# Altium integrated library Lattice ORCA Series 4.IntLib: 36 symbols (part 3 of 9)
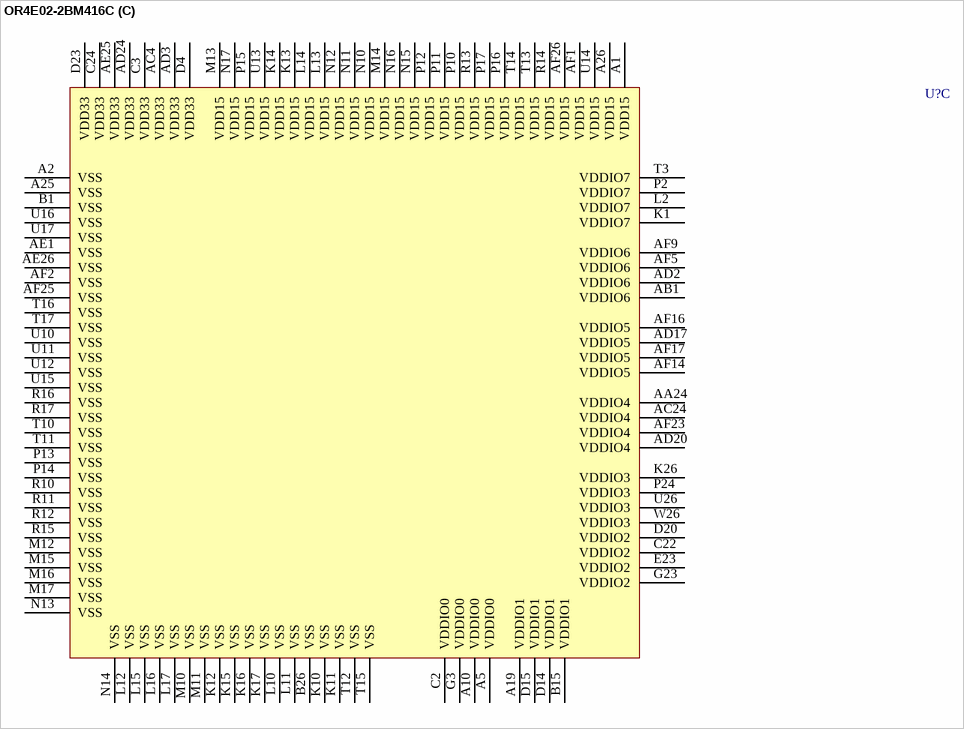
[diagram p120: symbol OR4E02-2BM416C]

## OR4E02-2BM416C
designator U?
ORCA Series 4 FPGA: 1.5 V, Commercial Grade, 405 I/Os.; Published: 21-May-2003; LatestRevisionDate: 13-Apr-2006; LatestRevisionNote: IPC-7351 Footprint Added.; DatasheetVersion: Aug-2003; PackageVersion: pkg_32, Aug-2005; PackageReference: fpBGA416; Publisher: Altium Limited; PackageDescription: 416-Ball Fine Pitch Ball Grid Array (fpBGA416); ComponentLink1Description: Manufacturer Link; ComponentLink1URL: http://www.latticesemi.com/products/fpga/orca/orca4/index.cfm; ComponentLink2Description: Datasheet; ComponentLink2URL: http://www.latticesemi.com/account/_download.cfm?AMID=3970; ComponentLink3Description: Lattice Login; ComponentLink3URL: http://www.latticesemi.com/account/login.cfm
footprint fpBGA416 (BGA, 416-Leads, Body 27x27mm, Pitch 1mm)
3D model OR4E02-fpBGA416 (416-Ball Fine Pitch Ball Grid Array (fpBGA416))
part A pins: AA1 PL22D/D8 (io), AA2 PL22C/VREF_6_01 (io), AA3 PL23C/VREF_6_02 (io), AA4 PL27D/PLL_CK7C/HPPLL (io), AB2 PL24D/D11 (io), AB3 PL25C/D13 (io), AB4 PL27C/PLL_CK7T/HPPLL (io), AC1 PL24C/D12 (io), AC2 PL25D/VREF_6_03 (io), AC5 PB2C/PLL_CK6T/PPLL (io), AC6 PB4A (io), AC7 PB5C/D15 (io), AC8 PB5D/D16 (io), AC9 PB8C/D23 (io), AC10 PB8D/D24 (io), AC11 PB12B/D30 (io), AC12 PB12A/D29 (io), AC13 PB15D (io), AC14 PB15C/VREF_5_02 (io), AC15 PB18A (io), AC16 PB18B (io), AC17 PB21B/VREF_5_06 (io), AC18 PB21A (io), AC19 PB23C (io), AC20 PB23D/VREF_4_02 (io), AC21 PB26C (io), AC22 PB27C/PLL_CK5T/PPLL (io), AC23 PB27D/PLL_CK5C/PPLL (io), AD1 PL26C/VREF_6_04 (io), AD4 PB2D/PLL_CK6C/PPLL (io), AD5 PB4B (io), AD6 PB5B (io), AD7 PB6A/D17 (io), AD8 PB6D/D19 (io), AD9 PB7D/D22 (io), AD10 PB10C/D26 (io), AD11 PB11D/D28 (io), AD12 PB13A (io), AD13 PB14C/PBCK0T (io), AD14 PB16D/VREF_5_03 (io), AD15 PB17C/PBCK1T (io), AD16 PB18C (io), AD18 PB22A (io), AD19 PB22D (io), AD21 PB25A (io), AD22 PB26D (io), AD23 PB27A (io), AE3 PB2A/DP2 (io), AE4 PB3C/VREF_6_05 (io), AE5 PB4D/D14 (io), AE6 PB6B/D18 (io), AE7 PB6C/VREF_6_07 (io), AE8 PB7C/VREF_6_08 (io), AE9 PB9D/D25 (io), AE10 PB10D/D27 (io), AE11 PB11C/VREF_6_10 (io), AE12 PB13B (io), AE13 PB14D/PBCK0C (io), AE14 PB16C (io), AE15 PB17B (io), AE16 PB17D/PBCK1C (io), AE17 PB18D/VREF_5_04 (io), AE18 PB19D/VREF_5_05 (io), AE19 PB22B (io), AE20 PB22C/VREF_4_01 (io), AE21 PB23B (io), AE22 PB24C (io), AE23 PB25C (io), AE24 PB27B/VREF_4_04 (io), AF3 PB3D/DP3 (io), AF4 PB4C/VREF_6_06 (io), AF6 PB7A/D20 (io), AF7 PB7B/D21 (io), AF8 PB9C/VREF_6_09 (io), AF10 PB12C/VREF_6_11 (io), AF11 PB12D/D31 (io), AF12 PB13C/VREF_5_01 (io), AF13 PB13D (io), AF15 PB17A (io), AF18 PB19C (io), AF19 PB20C (io), AF20 PB20D (io), AF21 PB23A (io), AF22 PB24A (io), AF24 PB25D/VREF_4_03 (io), D1 PL2A/VREF_0_07 (io), D2 PL2D/PLL_CK0C/HPPLL (io), E1 PL4D/HDC (io), E2 PL3D/D5 (io), E3 PL2C/PLL_CK0T/HPPLL (io), F1 PL5B/VREF_0_09 (io), F2 PL4C/~{LDC} (io), F3 PL3C/D6 (io), G1 PL6B (io), G2 PL5A/A17/PPC_A31 (io), G4 PL5D/TESTCFG (io), H1 PL6A (io), H2 PL6D/~{CS0} (io), H3 PL6C/CS1 (io), H4 PL5C/D7 (io), J1 PL8D/A15/PPC_A29 (io), J2 PL7A/A16/PPC_A30 (io), J3 PL7B/VREF_0_10 (io), J4 PL7D/~{INIT} (io), K2 PL8C/A14/PPC_A28 (io), K3 PL9D/VREF_7_01 (io), K4 PL7C/DOUT (io), L1 PL10B/A13/PPC_A27 (io), L3 PL9C/D4 (io), L4 PL10D/RDY/~{BUSY}/RCLK (io), M1 PL10A/A12/PPC_A26 (io), M2 PL11C (io), M3 PL11D (io), M4 PL10C/VREF_7_02 (io), N1 PL11B/A11/PPC_A25 (io), N2 PL11A/VREF_7_03 (io), N3 PL13D/~{RD/MPI_STRB} (io), N4 PL13C/VREF_7_04 (io), P1 PL15D/A10/PPC_A24 (io), P3 PL14C/PLCK0T (io), P4 PL14D/PLCK0C (io), R1 PL15C/A9/PPC_A23 (io), R2 PL16D/A8/PPC_A22 (io), R3 PL16C/VREF_7_05 (io), R4 PL17A/A7/PPC_A21 (io), T1 PL17D/PLCK1C (io), T2 PL17C/PLCK1T (io), T4 PL17B/VREF_7_06 (io), U1 PL18D/A6/PPC_A20 (io), U2 PL18C/A5/PPC_A19 (io), U3 PL19C/VREF_7_07 (io), U4 PL20A/A2/PPC_A16 (io), V1 PL18B (io), V2 PL19D/~{WR}/MPI_RW (io), V3 PL21D/A1/PPC_A15 (io), V4 PL20B/A3/PPC_A17 (io), W1 PL20D/A4/PPC_A18 (io), W2 PL21C/A0/PPC_A14 (io), W3 PL21A/DP1 (io), W4 PL22A/D10 (io), Y1 PL20C/VREF_7_08 (io), Y2 PL21B/DP0 (io), Y3 PL22B/D9 (io), Y4 PL23D (io)
part B pins: A3 PT3C/VREF_0_06 (io), A4 PT4D/TDI (io), A6 PT8A (io), A7 PT8B/VREF_0_03 (io), A8 PT9B/VREF_0_02 (io), A9 PT10C/M1 (io), A11 PT12A/VREF_1_06 (io), A12 PT13B/VREF_1_05 (io), A13 PT13C/PTCK0T (io), A14 PT15C/VREF_1_04 (io), A15 PT17C (io), A16 PT17D (io), A17 PT18D (io), A18 PT19D (io), A20 PT22C (io), A21 PT22D (io), A22 PT24D (io), A23 PT25D/VREF_2_06 (io), A24 PT26D/VREF_2_05 (io), AA23 PR25B (io), AA25 PR23C (io), AA26 PR23D/VREF_4_07 (io), AB23 PR25A/VREF_4_05 (io), AB24 PR25D (io), AB25 PR24A (io), AB26 PR24D (io), AC3 PTEMP, AC25 PR25C (io), AC26 PR24C/VREF_4_06 (io), AD25 PR26A/PLL_CK4T/PLL2 (io), AD26 PR26B/PLL_CK4C/PLL2 (io), AE2 LVDS_R (io), B2 CCLK (io), B3 PT3D (io), B4 ~{CFG_IRQ/MPI_IRQ} (out), B5 PT5C/D2 (io), B6 PT7A/A19/MPI_TSZ1 (io), B7 PT7C/TMS (io), B8 PT9A/~{MPI_TEA} (io), B9 PT10B/MPI_CLK (io), B10 PT10D/M0 (io), B11 PT12B (io), B12 PT13A (io), B13 PT13D/PTCK0C (io), B14 PT15D (io), B16 PT18C (io), B17 PT19C/VREF_1_02 (io), B18 PT20B (io), B19 PT21D (io), B20 PT23D (io), B21 PT24C/VREF_2_07 (io), B22 PT25C (io), B23 PT26C (io), B24 PLL_VF, B25 PR3D/PLL_CK3C/PLL1 (io), C1 ~{RESET} (in), C4 DONE (io), C5 PT4C/TCK (io), C6 PT5D/D1 (io), C7 PT7B/A20/~{MPI_BDIP} (io), C8 PT7D/D0 (io), C9 PT10A/A21/~{MPI_BURST} (io), C10 PT11A/VREF_0_01 (io), C11 PT11C/~{MPI_ACK} (io), C12 PT12D (io), C13 PT14C/PTCK1T (io), C14 PT16C (io), C15 PT16D (io), C16 PT18A/VREF_1_03 (io), C17 PT20A (io), C18 PT21C (io), C19 PT23C/VREF_2_08 (io), C20 PT24A (io), C21 PT26A (io), C23 PT27C/PLL_CK2T/PPLL (io), C25 PR4A (io), C26 PR3C/PLL_CK3T/PLL1 (io), D3 RD_DATA/TDO (out), D5 PT2D/PLL_CK1C/PPLL (io), D6 PT2C/PLL_CK1T/PPLL (io), D7 PT6D/A18/MPI_TSZ0 (io), D8 PT6C/D3 (io), D9 PT9C/M3 (io), D10 PT9D/M2 (io), D11 PT11D/~{MPI_RTRY} (io), D12 PT12C (io), D13 PT14D/PTCK1C (io), D16 PT18B (io), D17 PT20C (io), D18 PT20D/VREF_1_01 (io), D19 PT24B (io), D21 PT26B (io), D22 PT27D/PLL_CK2C/PPLL (io), D24 PR4B (io), D25 PR5D/VREF_2_03 (io), D26 PR5C (io), E4 ~{RD_CFG} (in), E24 PR4D (io), E25 PR6D (io), E26 PR7D (io), F4 ~{PRGM} (in), F23 PR4C (io), F24 PR5A (io), F25 PR6C/VREF_2_02 (io), F26 PR7C (io), G24 PR6B (io), G25 PR7A (io), G26 PR10D (io), H23 PR6A (io), H24 PR7B (io), H25 PR8D/VREF_2_01 (io), H26 PR10C (io), J23 PR9D (io), J24 PR8C (io), J25 PR11C/VREF_3_07 (io), J26 PR11B (io), K23 PR9C/VREF_3_08 (io), K24 PR11D (io), K25 PR11A (io), L23 PR12C (io), L24 PR12D (io), L25 PR12B (io), L26 PR12A (io), M23 PR13D/VREF_3_06 (io), M24 PR13C (io), M25 PR13B (io), M26 PR13A (io), N23 PR14A/PRCK0T (io), N24 PR14D (io), N25 PR14C/VREF_3_05 (io), N26 PR15D (io), P23 PR14B/PRCK0C (io), P25 PR15B/VREF_3_04 (io), P26 PR15C (io), R23 PR17A (io), R24 PR16C/PRCK1T (io), R25 PR16D/PRCK1C (io), R26 PR15A (io), T23 PR17B (io), T24 PR18D/VREF_3_02 (io), T25 PR17C (io), T26 PR17D/VREF_3_03 (io), U23 PR20D (io), U24 PR19D (io), U25 PR18C (io), V23 PR20C (io), V24 PR21D (io), V25 PR19C/VREF_3_01 (io), V26 PR18A (io), W23 PR23B (io), W24 PR22B (io), W25 PR21C (io), Y23 PR22A (io), Y24 PR23A (io), Y25 PR22C (io), Y26 PR22D/VREF_4_08 (io)
part C pins: A1 VDD15 (power), A2 VSS (power), A5 VDDIO0 (power), A10 VDDIO0 (power), A19 VDDIO1 (power), A25 VSS (power), A26 VDD15 (power), AA24 VDDIO4 (power), AB1 VDDIO6 (power), AC4 VDD33 (power), AC24 VDDIO4 (power), AD2 VDDIO6 (power), AD3 VDD33 (power), AD17 VDDIO5 (power), AD20 VDDIO4 (power), AD24 VDD33 (power), AE1 VSS (power), AE25 VDD33 (power), AE26 VSS (power), AF1 VDD15 (power), AF2 VSS (power), AF5 VDDIO6 (power), AF9 VDDIO6 (power), AF14 VDDIO5 (power), AF16 VDDIO5 (power), AF17 VDDIO5 (power), AF23 VDDIO4 (power), AF25 VSS (power), AF26 VDD15 (power), B1 VSS (power), B15 VDDIO1 (power), B26 VSS (power), C2 VDDIO0 (power), C3 VDD33 (power), C22 VDDIO2 (power), C24 VDD33 (power), D4 VDD33 (power), D14 VDDIO1 (power), D15 VDDIO1 (power), D20 VDDIO2 (power), D23 VDD33 (power), E23 VDDIO2 (power), G3 VDDIO0 (power), G23 VDDIO2 (power), K1 VDDIO7 (power), K10 VSS (power), K11 VSS (power), K12 VSS (power), K13 VDD15 (power), K14 VDD15 (power), K15 VSS (power), K16 VSS (power), K17 VSS (power), K26 VDDIO3 (power), L2 VDDIO7 (power), L10 VSS (power), L11 VSS (power), L12 VSS (power), L13 VDD15 (power), L14 VDD15 (power), L15 VSS (power), L16 VSS (power), L17 VSS (power), M10 VSS (power), M11 VSS (power), M12 VSS (power), M13 VDD15 (power), M14 VDD15 (power), M15 VSS (power), M16 VSS (power), M17 VSS (power), N10 VDD15 (power), N11 VDD15 (power), N12 VDD15 (power), N13 VSS (power), N14 VSS (power), N15 VDD15 (power), N16 VDD15 (power), N17 VDD15 (power), P2 VDDIO7 (power), P10 VDD15 (power), P11 VDD15 (power), P12 VDD15 (power), P13 VSS (power), P14 VSS (power), P15 VDD15 (power), P16 VDD15 (power), P17 VDD15 (power), P24 VDDIO3 (power), R10 VSS (power), R11 VSS (power), R12 VSS (power), R13 VDD15 (power), R14 VDD15 (power), R15 VSS (power), R16 VSS (power), R17 VSS (power), T3 VDDIO7 (power), T10 VSS (power), T11 VSS (power), T12 VSS (power), T13 VDD15 (power), T14 VDD15 (power), T15 VSS (power), T16 VSS (power), T17 VSS (power), U10 VSS (power), U11 VSS (power), U12 VSS (power), U13 VDD15 (power), U14 VDD15 (power), U15 VSS (power), U16 VSS (power), U17 VSS (power), U26 VDDIO3 (power), W26 VDDIO3 (power)

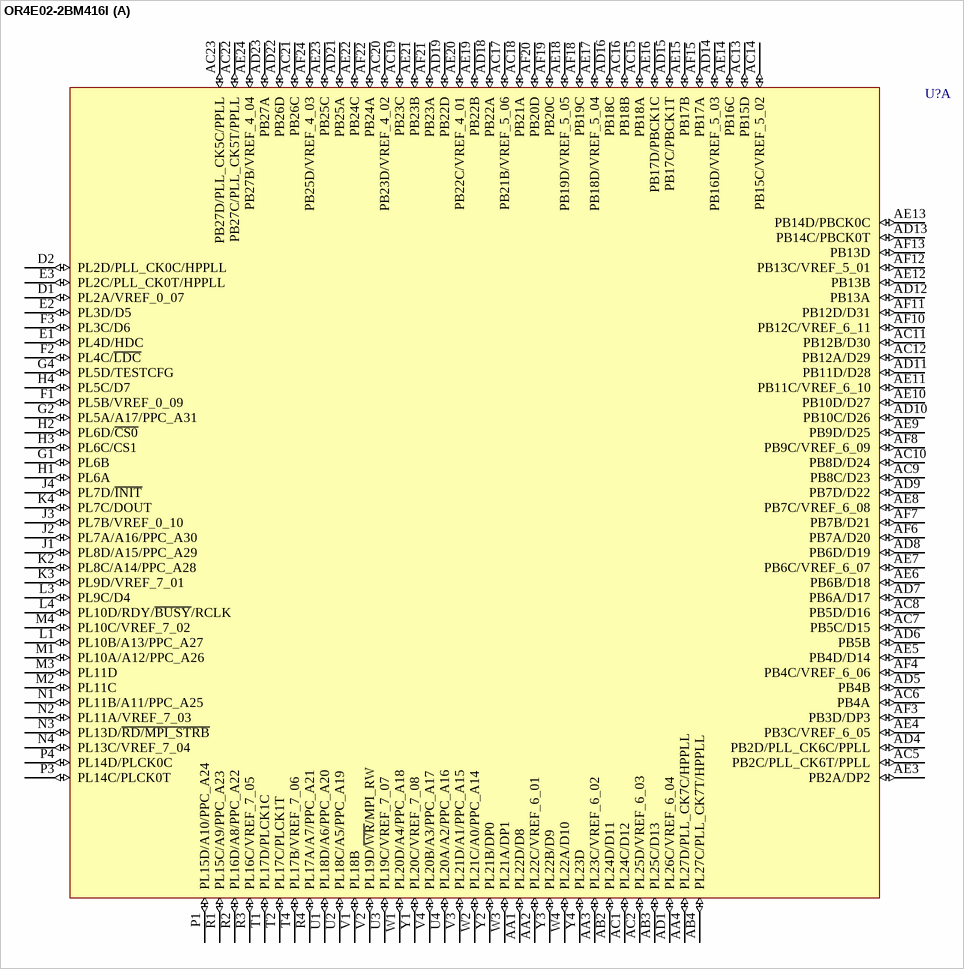
[diagram p27: symbol OR4E02-2BM416I]

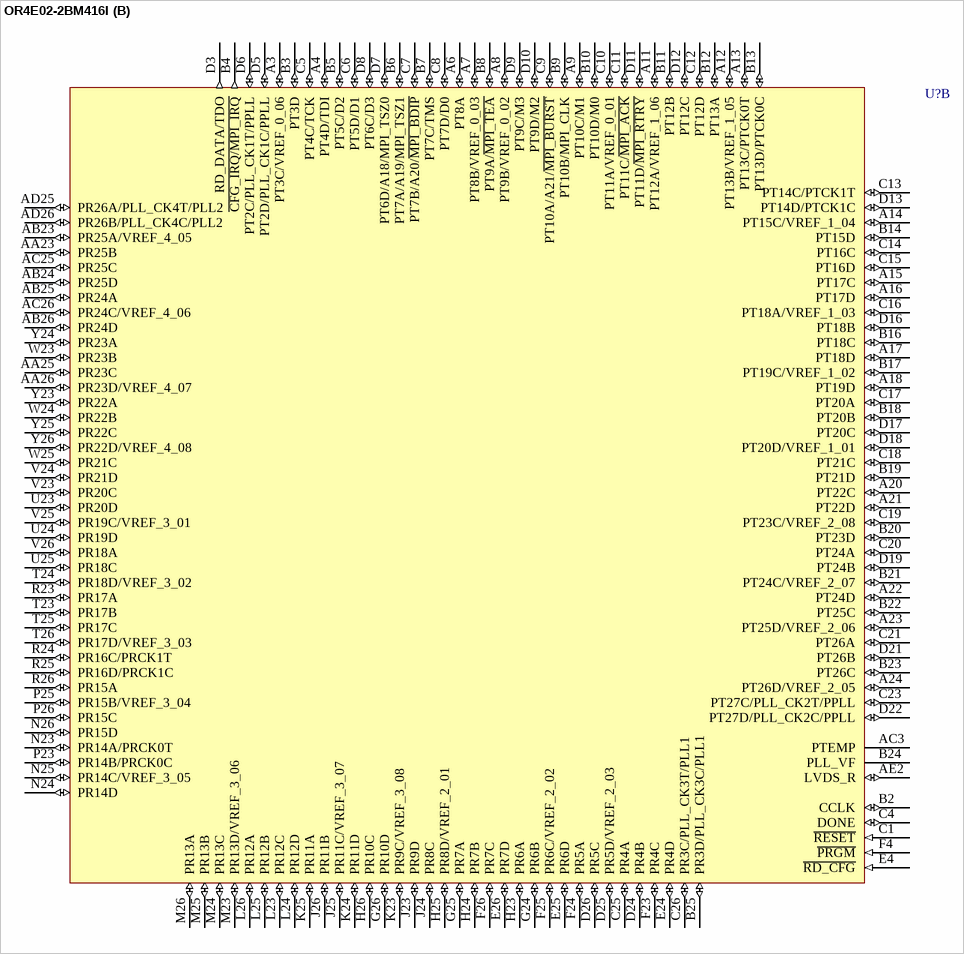
[diagram p28: symbol OR4E02-2BM416I]

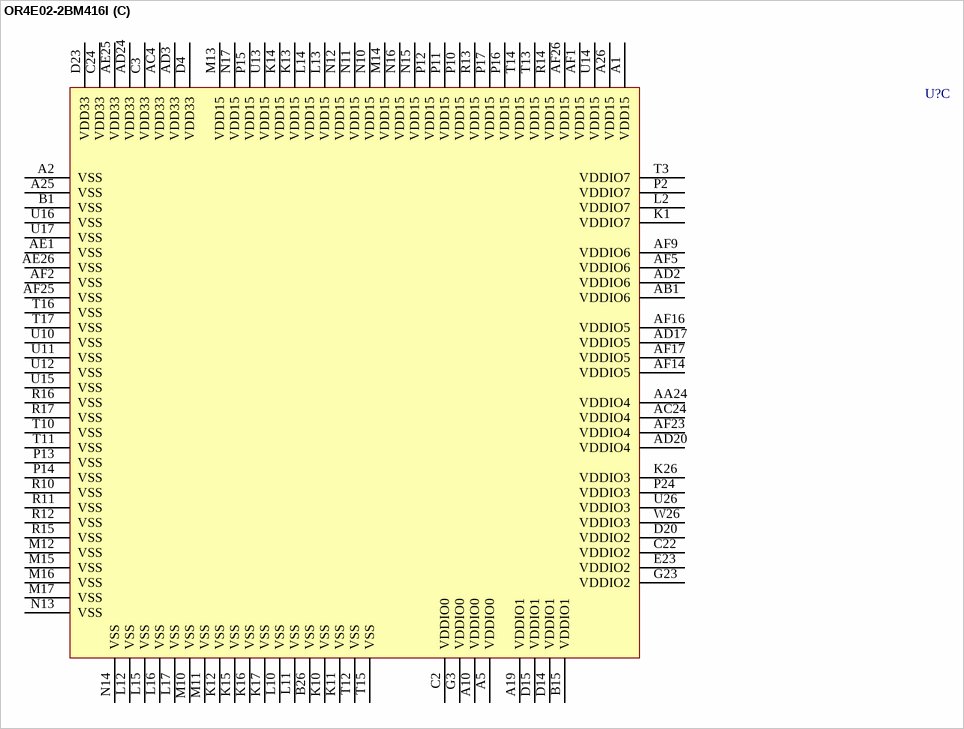
[diagram p29: symbol OR4E02-2BM416I]

## OR4E02-2BM416I
designator U?
ORCA Series 4 FPGA: 1.5 V, Industrial Grade, 405 I/Os.; Published: 21-May-2003; LatestRevisionDate: 13-Apr-2006; LatestRevisionNote: IPC-7351 Footprint Added.; DatasheetVersion: Aug-2003; PackageVersion: pkg_32, Aug-2005; PackageReference: fpBGA416; Publisher: Altium Limited; PackageDescription: 416-Ball Fine Pitch Ball Grid Array (fpBGA416); ComponentLink1Description: Manufacturer Link; ComponentLink1URL: http://www.latticesemi.com/products/fpga/orca/orca4/index.cfm; ComponentLink2Description: Datasheet; ComponentLink2URL: http://www.latticesemi.com/account/_download.cfm?AMID=3970; ComponentLink3Description: Lattice Login; ComponentLink3URL: http://www.latticesemi.com/account/login.cfm
footprint fpBGA416 (BGA, 416-Leads, Body 27x27mm, Pitch 1mm)
3D model OR4E02-fpBGA416 (416-Ball Fine Pitch Ball Grid Array (fpBGA416))
part A pins: AA1 PL22D/D8 (io), AA2 PL22C/VREF_6_01 (io), AA3 PL23C/VREF_6_02 (io), AA4 PL27D/PLL_CK7C/HPPLL (io), AB2 PL24D/D11 (io), AB3 PL25C/D13 (io), AB4 PL27C/PLL_CK7T/HPPLL (io), AC1 PL24C/D12 (io), AC2 PL25D/VREF_6_03 (io), AC5 PB2C/PLL_CK6T/PPLL (io), AC6 PB4A (io), AC7 PB5C/D15 (io), AC8 PB5D/D16 (io), AC9 PB8C/D23 (io), AC10 PB8D/D24 (io), AC11 PB12B/D30 (io), AC12 PB12A/D29 (io), AC13 PB15D (io), AC14 PB15C/VREF_5_02 (io), AC15 PB18A (io), AC16 PB18B (io), AC17 PB21B/VREF_5_06 (io), AC18 PB21A (io), AC19 PB23C (io), AC20 PB23D/VREF_4_02 (io), AC21 PB26C (io), AC22 PB27C/PLL_CK5T/PPLL (io), AC23 PB27D/PLL_CK5C/PPLL (io), AD1 PL26C/VREF_6_04 (io), AD4 PB2D/PLL_CK6C/PPLL (io), AD5 PB4B (io), AD6 PB5B (io), AD7 PB6A/D17 (io), AD8 PB6D/D19 (io), AD9 PB7D/D22 (io), AD10 PB10C/D26 (io), AD11 PB11D/D28 (io), AD12 PB13A (io), AD13 PB14C/PBCK0T (io), AD14 PB16D/VREF_5_03 (io), AD15 PB17C/PBCK1T (io), AD16 PB18C (io), AD18 PB22A (io), AD19 PB22D (io), AD21 PB25A (io), AD22 PB26D (io), AD23 PB27A (io), AE3 PB2A/DP2 (io), AE4 PB3C/VREF_6_05 (io), AE5 PB4D/D14 (io), AE6 PB6B/D18 (io), AE7 PB6C/VREF_6_07 (io), AE8 PB7C/VREF_6_08 (io), AE9 PB9D/D25 (io), AE10 PB10D/D27 (io), AE11 PB11C/VREF_6_10 (io), AE12 PB13B (io), AE13 PB14D/PBCK0C (io), AE14 PB16C (io), AE15 PB17B (io), AE16 PB17D/PBCK1C (io), AE17 PB18D/VREF_5_04 (io), AE18 PB19D/VREF_5_05 (io), AE19 PB22B (io), AE20 PB22C/VREF_4_01 (io), AE21 PB23B (io), AE22 PB24C (io), AE23 PB25C (io), AE24 PB27B/VREF_4_04 (io), AF3 PB3D/DP3 (io), AF4 PB4C/VREF_6_06 (io), AF6 PB7A/D20 (io), AF7 PB7B/D21 (io), AF8 PB9C/VREF_6_09 (io), AF10 PB12C/VREF_6_11 (io), AF11 PB12D/D31 (io), AF12 PB13C/VREF_5_01 (io), AF13 PB13D (io), AF15 PB17A (io), AF18 PB19C (io), AF19 PB20C (io), AF20 PB20D (io), AF21 PB23A (io), AF22 PB24A (io), AF24 PB25D/VREF_4_03 (io), D1 PL2A/VREF_0_07 (io), D2 PL2D/PLL_CK0C/HPPLL (io), E1 PL4D/HDC (io), E2 PL3D/D5 (io), E3 PL2C/PLL_CK0T/HPPLL (io), F1 PL5B/VREF_0_09 (io), F2 PL4C/~{LDC} (io), F3 PL3C/D6 (io), G1 PL6B (io), G2 PL5A/A17/PPC_A31 (io), G4 PL5D/TESTCFG (io), H1 PL6A (io), H2 PL6D/~{CS0} (io), H3 PL6C/CS1 (io), H4 PL5C/D7 (io), J1 PL8D/A15/PPC_A29 (io), J2 PL7A/A16/PPC_A30 (io), J3 PL7B/VREF_0_10 (io), J4 PL7D/~{INIT} (io), K2 PL8C/A14/PPC_A28 (io), K3 PL9D/VREF_7_01 (io), K4 PL7C/DOUT (io), L1 PL10B/A13/PPC_A27 (io), L3 PL9C/D4 (io), L4 PL10D/RDY/~{BUSY}/RCLK (io), M1 PL10A/A12/PPC_A26 (io), M2 PL11C (io), M3 PL11D (io), M4 PL10C/VREF_7_02 (io), N1 PL11B/A11/PPC_A25 (io), N2 PL11A/VREF_7_03 (io), N3 PL13D/~{RD/MPI_STRB} (io), N4 PL13C/VREF_7_04 (io), P1 PL15D/A10/PPC_A24 (io), P3 PL14C/PLCK0T (io), P4 PL14D/PLCK0C (io), R1 PL15C/A9/PPC_A23 (io), R2 PL16D/A8/PPC_A22 (io), R3 PL16C/VREF_7_05 (io), R4 PL17A/A7/PPC_A21 (io), T1 PL17D/PLCK1C (io), T2 PL17C/PLCK1T (io), T4 PL17B/VREF_7_06 (io), U1 PL18D/A6/PPC_A20 (io), U2 PL18C/A5/PPC_A19 (io), U3 PL19C/VREF_7_07 (io), U4 PL20A/A2/PPC_A16 (io), V1 PL18B (io), V2 PL19D/~{WR}/MPI_RW (io), V3 PL21D/A1/PPC_A15 (io), V4 PL20B/A3/PPC_A17 (io), W1 PL20D/A4/PPC_A18 (io), W2 PL21C/A0/PPC_A14 (io), W3 PL21A/DP1 (io), W4 PL22A/D10 (io), Y1 PL20C/VREF_7_08 (io), Y2 PL21B/DP0 (io), Y3 PL22B/D9 (io), Y4 PL23D (io)
part B pins: A3 PT3C/VREF_0_06 (io), A4 PT4D/TDI (io), A6 PT8A (io), A7 PT8B/VREF_0_03 (io), A8 PT9B/VREF_0_02 (io), A9 PT10C/M1 (io), A11 PT12A/VREF_1_06 (io), A12 PT13B/VREF_1_05 (io), A13 PT13C/PTCK0T (io), A14 PT15C/VREF_1_04 (io), A15 PT17C (io), A16 PT17D (io), A17 PT18D (io), A18 PT19D (io), A20 PT22C (io), A21 PT22D (io), A22 PT24D (io), A23 PT25D/VREF_2_06 (io), A24 PT26D/VREF_2_05 (io), AA23 PR25B (io), AA25 PR23C (io), AA26 PR23D/VREF_4_07 (io), AB23 PR25A/VREF_4_05 (io), AB24 PR25D (io), AB25 PR24A (io), AB26 PR24D (io), AC3 PTEMP, AC25 PR25C (io), AC26 PR24C/VREF_4_06 (io), AD25 PR26A/PLL_CK4T/PLL2 (io), AD26 PR26B/PLL_CK4C/PLL2 (io), AE2 LVDS_R (io), B2 CCLK (io), B3 PT3D (io), B4 ~{CFG_IRQ/MPI_IRQ} (out), B5 PT5C/D2 (io), B6 PT7A/A19/MPI_TSZ1 (io), B7 PT7C/TMS (io), B8 PT9A/~{MPI_TEA} (io), B9 PT10B/MPI_CLK (io), B10 PT10D/M0 (io), B11 PT12B (io), B12 PT13A (io), B13 PT13D/PTCK0C (io), B14 PT15D (io), B16 PT18C (io), B17 PT19C/VREF_1_02 (io), B18 PT20B (io), B19 PT21D (io), B20 PT23D (io), B21 PT24C/VREF_2_07 (io), B22 PT25C (io), B23 PT26C (io), B24 PLL_VF, B25 PR3D/PLL_CK3C/PLL1 (io), C1 ~{RESET} (in), C4 DONE (io), C5 PT4C/TCK (io), C6 PT5D/D1 (io), C7 PT7B/A20/~{MPI_BDIP} (io), C8 PT7D/D0 (io), C9 PT10A/A21/~{MPI_BURST} (io), C10 PT11A/VREF_0_01 (io), C11 PT11C/~{MPI_ACK} (io), C12 PT12D (io), C13 PT14C/PTCK1T (io), C14 PT16C (io), C15 PT16D (io), C16 PT18A/VREF_1_03 (io), C17 PT20A (io), C18 PT21C (io), C19 PT23C/VREF_2_08 (io), C20 PT24A (io), C21 PT26A (io), C23 PT27C/PLL_CK2T/PPLL (io), C25 PR4A (io), C26 PR3C/PLL_CK3T/PLL1 (io), D3 RD_DATA/TDO (out), D5 PT2D/PLL_CK1C/PPLL (io), D6 PT2C/PLL_CK1T/PPLL (io), D7 PT6D/A18/MPI_TSZ0 (io), D8 PT6C/D3 (io), D9 PT9C/M3 (io), D10 PT9D/M2 (io), D11 PT11D/~{MPI_RTRY} (io), D12 PT12C (io), D13 PT14D/PTCK1C (io), D16 PT18B (io), D17 PT20C (io), D18 PT20D/VREF_1_01 (io), D19 PT24B (io), D21 PT26B (io), D22 PT27D/PLL_CK2C/PPLL (io), D24 PR4B (io), D25 PR5D/VREF_2_03 (io), D26 PR5C (io), E4 ~{RD_CFG} (in), E24 PR4D (io), E25 PR6D (io), E26 PR7D (io), F4 ~{PRGM} (in), F23 PR4C (io), F24 PR5A (io), F25 PR6C/VREF_2_02 (io), F26 PR7C (io), G24 PR6B (io), G25 PR7A (io), G26 PR10D (io), H23 PR6A (io), H24 PR7B (io), H25 PR8D/VREF_2_01 (io), H26 PR10C (io), J23 PR9D (io), J24 PR8C (io), J25 PR11C/VREF_3_07 (io), J26 PR11B (io), K23 PR9C/VREF_3_08 (io), K24 PR11D (io), K25 PR11A (io), L23 PR12C (io), L24 PR12D (io), L25 PR12B (io), L26 PR12A (io), M23 PR13D/VREF_3_06 (io), M24 PR13C (io), M25 PR13B (io), M26 PR13A (io), N23 PR14A/PRCK0T (io), N24 PR14D (io), N25 PR14C/VREF_3_05 (io), N26 PR15D (io), P23 PR14B/PRCK0C (io), P25 PR15B/VREF_3_04 (io), P26 PR15C (io), R23 PR17A (io), R24 PR16C/PRCK1T (io), R25 PR16D/PRCK1C (io), R26 PR15A (io), T23 PR17B (io), T24 PR18D/VREF_3_02 (io), T25 PR17C (io), T26 PR17D/VREF_3_03 (io), U23 PR20D (io), U24 PR19D (io), U25 PR18C (io), V23 PR20C (io), V24 PR21D (io), V25 PR19C/VREF_3_01 (io), V26 PR18A (io), W23 PR23B (io), W24 PR22B (io), W25 PR21C (io), Y23 PR22A (io), Y24 PR23A (io), Y25 PR22C (io), Y26 PR22D/VREF_4_08 (io)
part C pins: A1 VDD15 (power), A2 VSS (power), A5 VDDIO0 (power), A10 VDDIO0 (power), A19 VDDIO1 (power), A25 VSS (power), A26 VDD15 (power), AA24 VDDIO4 (power), AB1 VDDIO6 (power), AC4 VDD33 (power), AC24 VDDIO4 (power), AD2 VDDIO6 (power), AD3 VDD33 (power), AD17 VDDIO5 (power), AD20 VDDIO4 (power), AD24 VDD33 (power), AE1 VSS (power), AE25 VDD33 (power), AE26 VSS (power), AF1 VDD15 (power), AF2 VSS (power), AF5 VDDIO6 (power), AF9 VDDIO6 (power), AF14 VDDIO5 (power), AF16 VDDIO5 (power), AF17 VDDIO5 (power), AF23 VDDIO4 (power), AF25 VSS (power), AF26 VDD15 (power), B1 VSS (power), B15 VDDIO1 (power), B26 VSS (power), C2 VDDIO0 (power), C3 VDD33 (power), C22 VDDIO2 (power), C24 VDD33 (power), D4 VDD33 (power), D14 VDDIO1 (power), D15 VDDIO1 (power), D20 VDDIO2 (power), D23 VDD33 (power), E23 VDDIO2 (power), G3 VDDIO0 (power), G23 VDDIO2 (power), K1 VDDIO7 (power), K10 VSS (power), K11 VSS (power), K12 VSS (power), K13 VDD15 (power), K14 VDD15 (power), K15 VSS (power), K16 VSS (power), K17 VSS (power), K26 VDDIO3 (power), L2 VDDIO7 (power), L10 VSS (power), L11 VSS (power), L12 VSS (power), L13 VDD15 (power), L14 VDD15 (power), L15 VSS (power), L16 VSS (power), L17 VSS (power), M10 VSS (power), M11 VSS (power), M12 VSS (power), M13 VDD15 (power), M14 VDD15 (power), M15 VSS (power), M16 VSS (power), M17 VSS (power), N10 VDD15 (power), N11 VDD15 (power), N12 VDD15 (power), N13 VSS (power), N14 VSS (power), N15 VDD15 (power), N16 VDD15 (power), N17 VDD15 (power), P2 VDDIO7 (power), P10 VDD15 (power), P11 VDD15 (power), P12 VDD15 (power), P13 VSS (power), P14 VSS (power), P15 VDD15 (power), P16 VDD15 (power), P17 VDD15 (power), P24 VDDIO3 (power), R10 VSS (power), R11 VSS (power), R12 VSS (power), R13 VDD15 (power), R14 VDD15 (power), R15 VSS (power), R16 VSS (power), R17 VSS (power), T3 VDDIO7 (power), T10 VSS (power), T11 VSS (power), T12 VSS (power), T13 VDD15 (power), T14 VDD15 (power), T15 VSS (power), T16 VSS (power), T17 VSS (power), U10 VSS (power), U11 VSS (power), U12 VSS (power), U13 VDD15 (power), U14 VDD15 (power), U15 VSS (power), U16 VSS (power), U17 VSS (power), U26 VDDIO3 (power), W26 VDDIO3 (power)

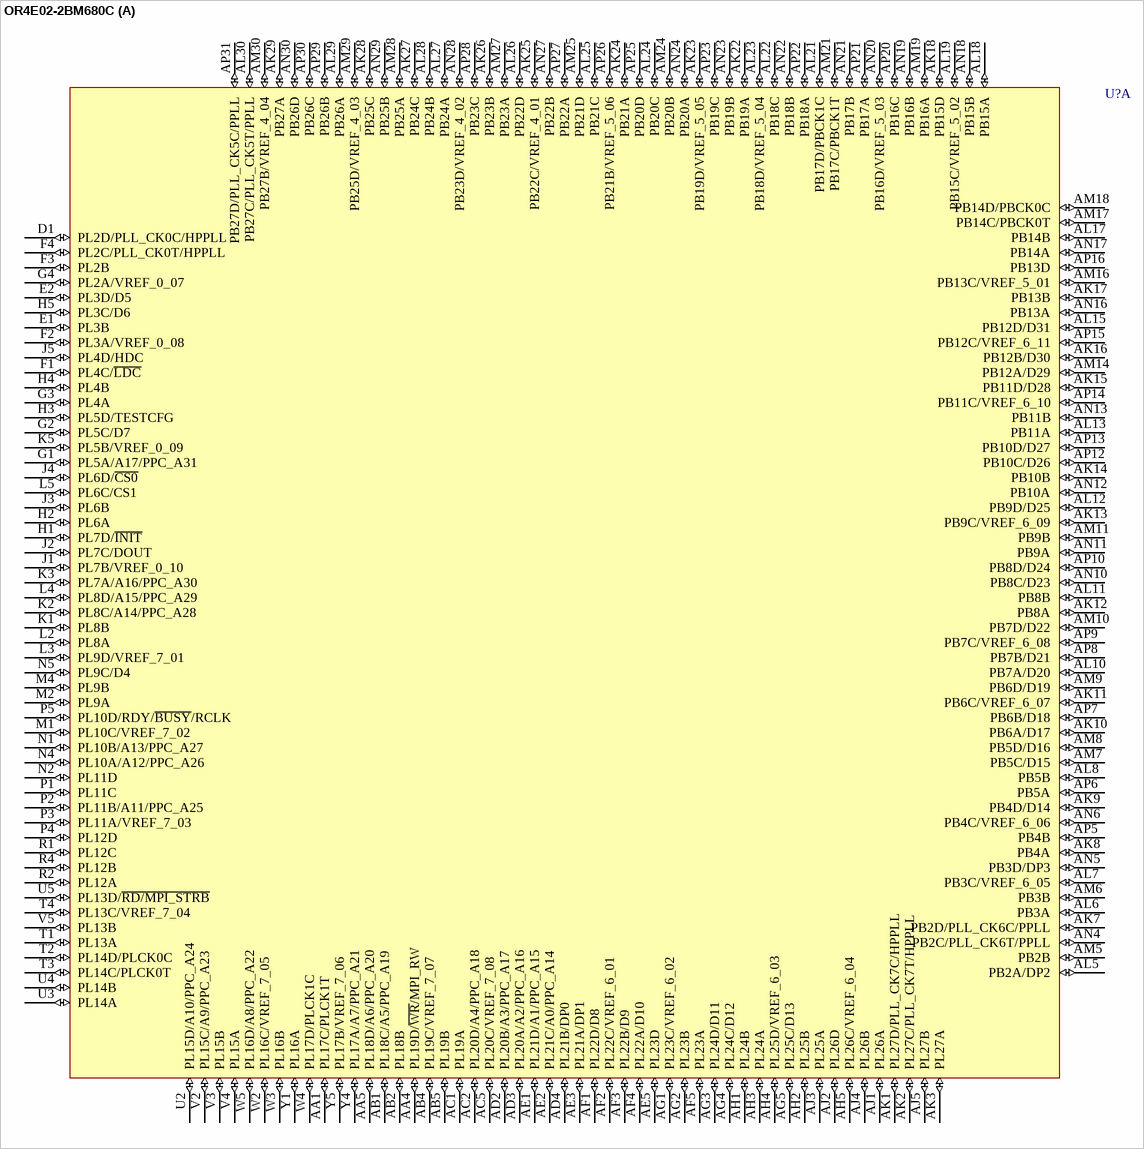
[diagram p30: symbol OR4E02-2BM680C]

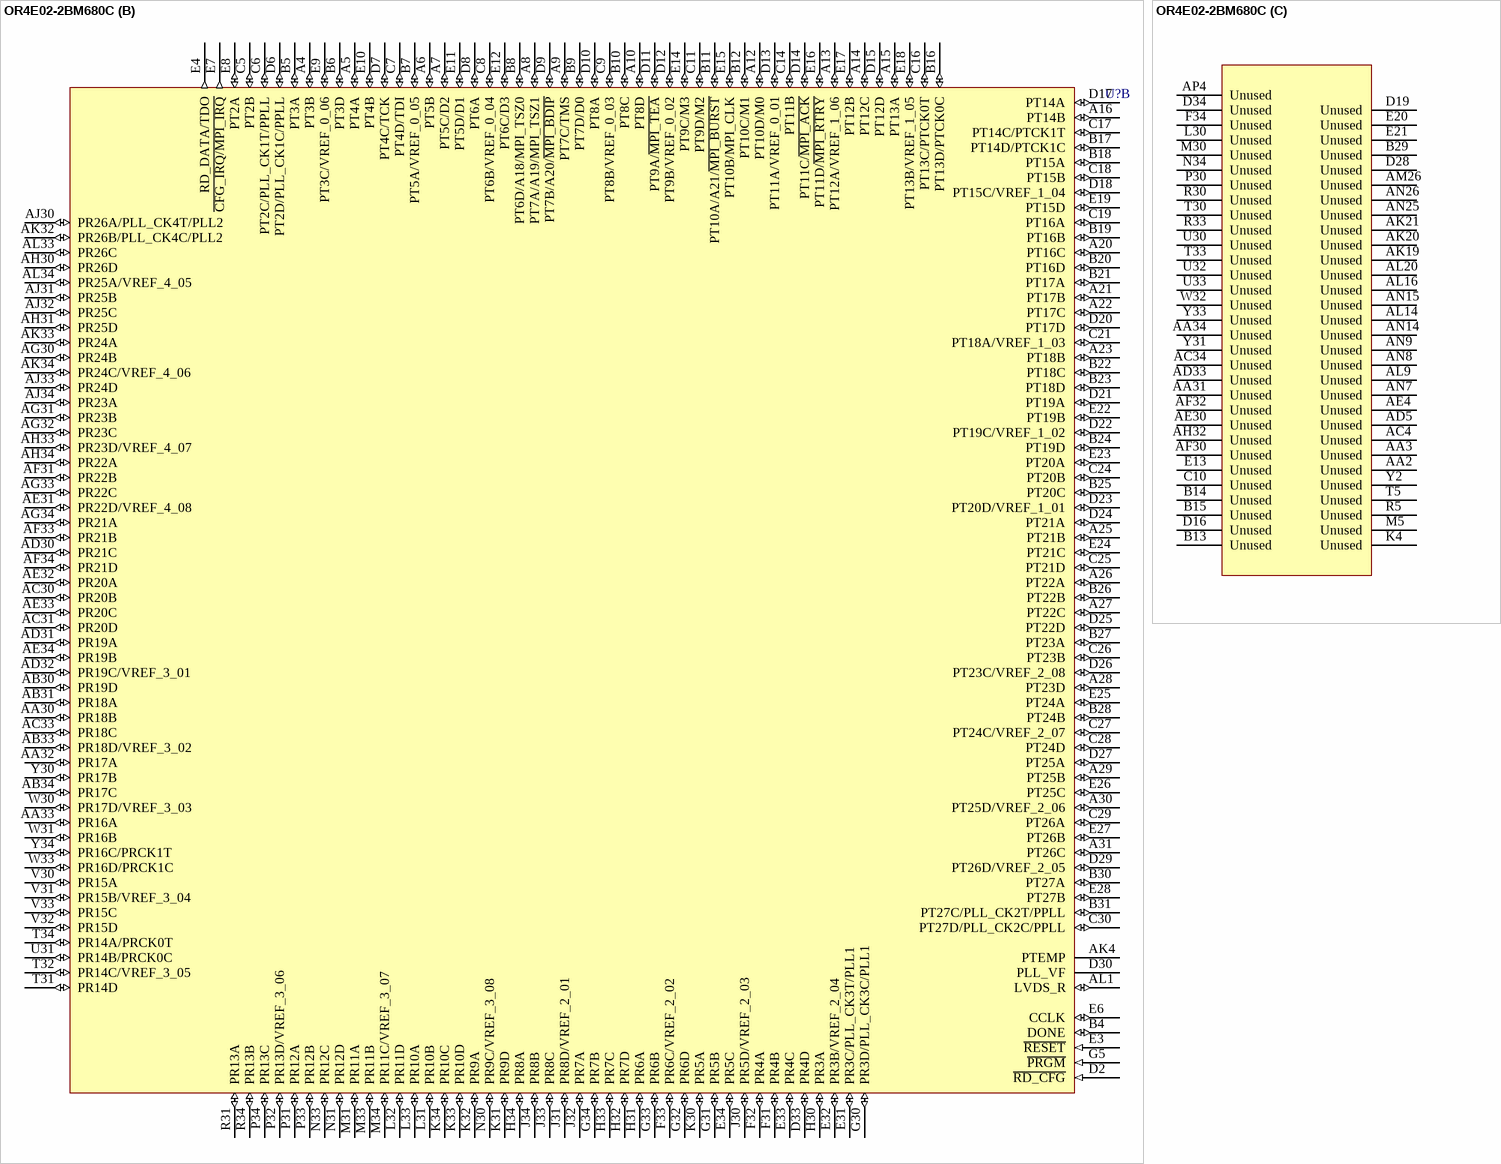
[diagram p31: symbol OR4E02-2BM680C]

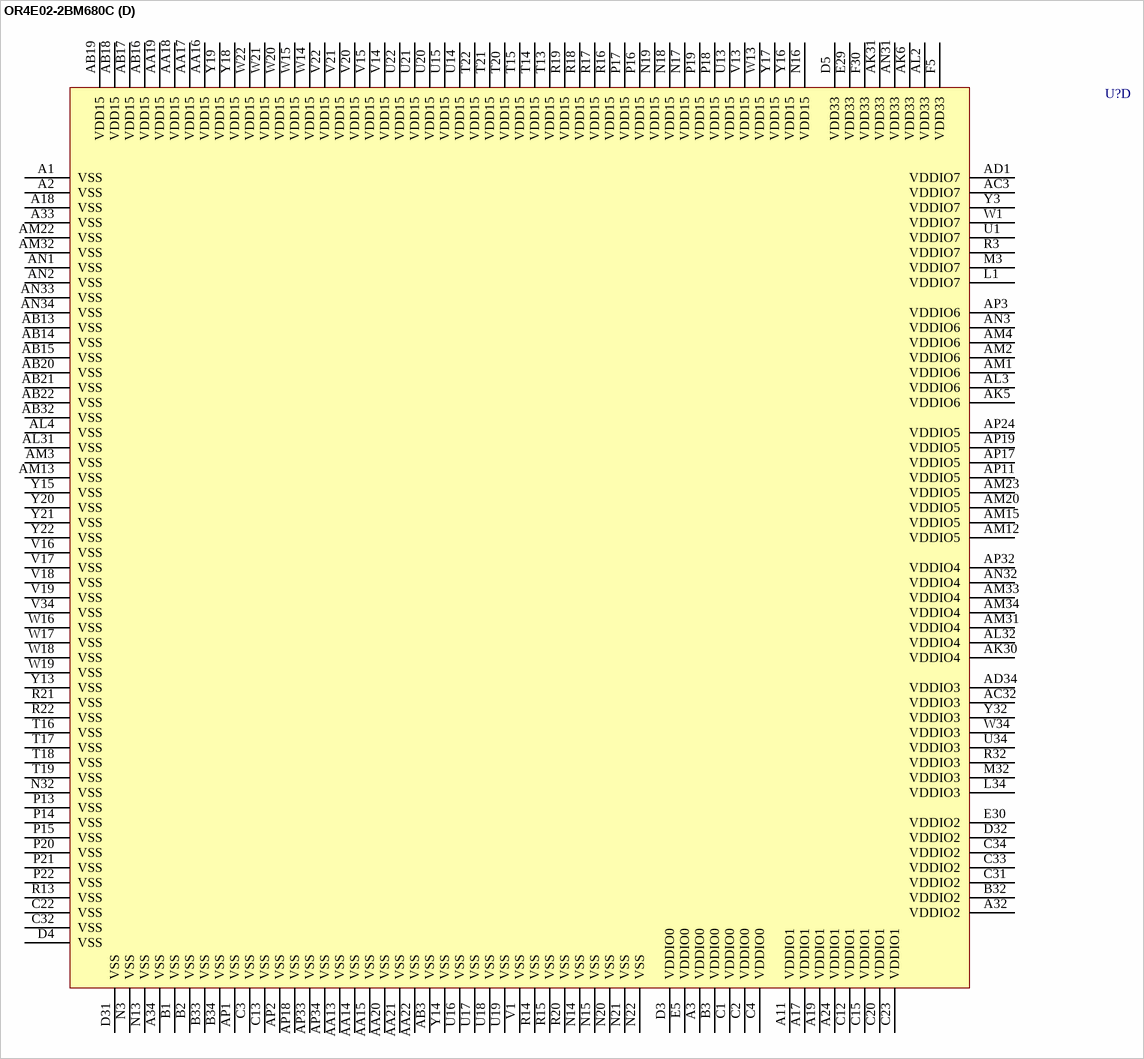
[diagram p32: symbol OR4E02-2BM680C]

## OR4E02-2BM680C
designator U?
ORCA Series 4 FPGA: 1.5 V, Commercial Grade, 405 I/Os.; Published: 21-May-2003; LatestRevisionDate: 13-Apr-2006; LatestRevisionNote: IPC-7351 Footprint Added.; DatasheetVersion: Aug-2003; PackageVersion: pkg_32, Aug-2005; PackageReference: fpBGA680; Publisher: Altium Limited; PackageDescription: 680-Ball Fine Pitch Ball Grid Array (fpBGA680); ComponentLink1Description: Manufacturer Link; ComponentLink1URL: http://www.latticesemi.com/products/fpga/orca/orca4/index.cfm; ComponentLink2Description: Datasheet; ComponentLink2URL: http://www.latticesemi.com/account/_download.cfm?AMID=3970; ComponentLink3Description: Lattice Login; ComponentLink3URL: http://www.latticesemi.com/account/login.cfm
footprint fpBGA680 (BGA, 680-Leads, Body 35x35mm, Pitch 1mm)
3D model OR4E02-fpBGA680 (680-Ball Fine Pitch Ball Grid Array (fpBGA680))
part A pins: AA1 PL17C/PLCK1T (io), AA4 PL19D/~{WR}/MPI_RW (io), AA5 PL18D/A6/PPC_A20 (io), AB1 PL18C/A5/PPC_A19 (io), AB2 PL18B (io), AB4 PL19C/VREF_7_07 (io), AB5 PL19B (io), AC1 PL19A (io), AC2 PL20D/A4/PPC_A18 (io), AC5 PL20C/VREF_7_08 (io), AD2 PL20B/A3/PPC_A17 (io), AD3 PL20A/A2/PPC_A16 (io), AD4 PL21B/DP0 (io), AE1 PL21D/A1/PPC_A15 (io), AE2 PL21C/A0/PPC_A14 (io), AE3 PL21A/DP1 (io), AE5 PL23D (io), AF1 PL22D/D8 (io), AF2 PL22C/VREF_6_01 (io), AF3 PL22B/D9 (io), AF4 PL22A/D10 (io), AF5 PL23A (io), AG1 PL23C/VREF_6_02 (io), AG2 PL23B (io), AG3 PL24D/D11 (io), AG4 PL24C/D12 (io), AG5 PL25C/D13 (io), AH1 PL24B (io), AH2 PL25B (io), AH3 PL24A (io), AH4 PL25D/VREF_6_03 (io), AH5 PL26C/VREF_6_04 (io), AJ1 PL26A (io), AJ2 PL26D (io), AJ3 PL25A (io), AJ4 PL26B (io), AJ5 PL27B (io), AK1 PL27D/PLL_CK7C/HPPLL (io), AK2 PL27C/PLL_CK7T/HPPLL (io), AK3 PL27A (io), AK7 PB2D/PLL_CK6C/PPLL (io), AK8 PB4A (io), AK9 PB4D/D14 (io), AK10 PB6A/D17 (io), AK11 PB6C/VREF_6_07 (io), AK12 PB8A (io), AK13 PB9C/VREF_6_09 (io), AK14 PB10B (io), AK15 PB11D/D28 (io), AK16 PB12B/D30 (io), AK17 PB13B (io), AK18 PB15D (io), AK22 PB19A (io), AK23 PB19D/VREF_5_05 (io), AK24 PB21A (io), AK25 PB22C/VREF_4_01 (io), AK26 PB23B (io), AK27 PB24C (io), AK28 PB25C (io), AK29 PB27A (io), AL5 PB2A/DP2 (io), AL6 PB3A (io), AL7 PB3C/VREF_6_05 (io), AL8 PB5B (io), AL10 PB7A/D20 (io), AL11 PB8B (io), AL12 PB9D/D25 (io), AL13 PB11A (io), AL15 PB12D/D31 (io), AL17 PB14B (io), AL18 PB15A (io), AL19 PB15C/VREF_5_02 (io), AL21 PB17D/PBCK1C (io), AL22 PB18C (io), AL23 PB18D/VREF_5_04 (io), AL24 PB20C (io), AL25 PB21C (io), AL26 PB22D (io), AL27 PB24A (io), AL28 PB24B (io), AL29 PB26A (io), AL30 PB27C/PLL_CK5T/PPLL (io), AM5 PB2B (io), AM6 PB3B (io), AM7 PB5C/D15 (io), AM8 PB5D/D16 (io), AM9 PB6D/D19 (io), AM10 PB7D/D22 (io), AM11 PB9B (io), AM14 PB12A/D29 (io), AM16 PB13C/VREF_5_01 (io), AM17 PB14C/PBCK0T (io), AM18 PB14D/PBCK0C (io), AM19 PB16A (io), AM21 PB17C/PBCK1T (io), AM24 PB20B (io), AM25 PB21D (io), AM27 PB23A (io), AM28 PB25A (io), AM29 PB25D/VREF_4_03 (io), AM30 PB27B/VREF_4_04 (io), AN4 PB2C/PLL_CK6T/PPLL (io), AN5 PB3D/DP3 (io), AN6 PB4C/VREF_6_06 (io), AN10 PB8C/D23 (io), AN11 PB9A (io), AN12 PB10A (io), AN13 PB11B (io), AN16 PB13A (io), AN17 PB14A (io), AN18 PB15B (io), AN19 PB16B (io), AN20 PB16D/VREF_5_03 (io), AN21 PB17B (io), AN22 PB18B (io), AN23 PB19B (io), AN24 PB20A (io), AN27 PB22B (io), AN28 PB23D/VREF_4_02 (io), AN29 PB25B (io), AN30 PB26D (io), AP5 PB4B (io), AP6 PB5A (io), AP7 PB6B/D18 (io), AP8 PB7B/D21 (io), AP9 PB7C/VREF_6_08 (io), AP10 PB8D/D24 (io), AP12 PB10C/D26 (io), AP13 PB10D/D27 (io), AP14 PB11C/VREF_6_10 (io), AP15 PB12C/VREF_6_11 (io), AP16 PB13D (io), AP20 PB16C (io), AP21 PB17A (io), AP22 PB18A (io), AP23 PB19C (io), AP25 PB20D (io), AP26 PB21B/VREF_5_06 (io), AP27 PB22A (io), AP28 PB23C (io), AP29 PB26B (io), AP30 PB26C (io), AP31 PB27D/PLL_CK5C/PPLL (io), D1 PL2D/PLL_CK0C/HPPLL (io), E1 PL3B (io), E2 PL3D/D5 (io), F1 PL4C/~{LDC} (io), F2 PL3A/VREF_0_08 (io), F3 PL2B (io), F4 PL2C/PLL_CK0T/HPPLL (io), G1 PL5A/A17/PPC_A31 (io), G2 PL5C/D7 (io), G3 PL4A (io), G4 PL2A/VREF_0_07 (io), H1 PL7D/~{INIT} (io), H2 PL6A (io), H3 PL5D/TESTCFG (io), H4 PL4B (io), H5 PL3C/D6 (io), J1 PL7B/VREF_0_10 (io), J2 PL7C/DOUT (io), J3 PL6B (io), J4 PL6D/~{CS0} (io), J5 PL4D/HDC (io), K1 PL8B (io), K2 PL8C/A14/PPC_A28 (io), K3 PL7A/A16/PPC_A30 (io), K5 PL5B/VREF_0_09 (io), L2 PL8A (io), L3 PL9D/VREF_7_01 (io), L4 PL8D/A15/PPC_A29 (io), L5 PL6C/CS1 (io), M1 PL10C/VREF_7_02 (io), M2 PL9A (io), M4 PL9B (io), N1 PL10B/A13/PPC_A27 (io), N2 PL11D (io), N4 PL10A/A12/PPC_A26 (io), N5 PL9C/D4 (io), P1 PL11C (io), P2 PL11B/A11/PPC_A25 (io), P3 PL11A/VREF_7_03 (io), P4 PL12D (io), P5 PL10D/RDY/~{BUSY}/RCLK (io), R1 PL12C (io), R2 PL12A (io), R4 PL12B (io), T1 PL13A (io), T2 PL14D/PLCK0C (io), T3 PL14C/PLCK0T (io), T4 PL13C/VREF_7_04 (io), U2 PL15D/A10/PPC_A24 (io), U3 PL14A (io), U4 PL14B (io), U5 PL13D/~{RD/MPI_STRB} (io), V2 PL15C/A9/PPC_A23 (io), V3 PL15B (io), V4 PL15A (io), V5 PL13B (io), W2 PL16C/VREF_7_05 (io), W3 PL16B (io), W4 PL17D/PLCK1C (io), W5 PL16D/A8/PPC_A22 (io), Y1 PL16A (io), Y4 PL17A/A7/PPC_A21 (io), Y5 PL17B/VREF_7_06 (io)
part B pins: A4 PT3B (io), A5 PT4A (io), A6 PT5B (io), A7 PT5C/D2 (io), A8 PT7A/A19/MPI_TSZ1 (io), A9 PT7C/TMS (io), A10 PT8D (io), A12 PT10D/M0 (io), A13 PT12A/VREF_1_06 (io), A14 PT12C (io), A15 PT13A (io), A16 PT14B (io), A20 PT16C (io), A21 PT17B (io), A22 PT17C (io), A23 PT18B (io), A25 PT21B (io), A26 PT22A (io), A27 PT22C (io), A28 PT23D (io), A29 PT25B (io), A30 PT25D/VREF_2_06 (io), A31 PT26C (io), AA30 PR18B (io), AA32 PR17A (io), AA33 PR16A (io), AB30 PR19D (io), AB31 PR18A (io), AB33 PR18D/VREF_3_02 (io), AB34 PR17C (io), AC30 PR20B (io), AC31 PR20D (io), AC33 PR18C (io), AD30 PR21C (io), AD31 PR19A (io), AD32 PR19C/VREF_3_01 (io), AE31 PR22D/VREF_4_08 (io), AE32 PR20A (io), AE33 PR20C (io), AE34 PR19B (io), AF31 PR22B (io), AF33 PR21B (io), AF34 PR21D (io), AG30 PR24B (io), AG31 PR23B (io), AG32 PR23C (io), AG33 PR22C (io), AG34 PR21A (io), AH30 PR26D (io), AH31 PR25D (io), AH33 PR23D/VREF_4_07 (io), AH34 PR22A (io), AJ30 PR26A/PLL_CK4T/PLL2 (io), AJ31 PR25B (io), AJ32 PR25C (io), AJ33 PR24D (io), AJ34 PR23A (io), AK4 PTEMP, AK32 PR26B/PLL_CK4C/PLL2 (io), AK33 PR24A (io), AK34 PR24C/VREF_4_06 (io), AL1 LVDS_R (io), AL33 PR26C (io), AL34 PR25A/VREF_4_05 (io), B4 DONE (io), B5 PT3A (io), B6 PT3D (io), B7 PT5A/VREF_0_05 (io), B8 PT6D/A18/MPI_TSZ0 (io), B9 PT7D/D0 (io), B10 PT8C (io), B11 PT10A/A21/~{MPI_BURST} (io), B12 PT10C/M1 (io), B16 PT13D/PTCK0C (io), B17 PT14D/PTCK1C (io), B18 PT15A (io), B19 PT16B (io), B20 PT16D (io), B21 PT17A (io), B22 PT18C (io), B23 PT18D (io), B24 PT19D (io), B25 PT20C (io), B26 PT22B (io), B27 PT23A (io), B28 PT24B (io), B30 PT27A (io), B31 PT27C/PLL_CK2T/PPLL (io), C5 PT2B (io), C6 PT2C/PLL_CK1T/PPLL (io), C7 PT4D/TDI (io), C8 PT6B/VREF_0_04 (io), C9 PT8B/VREF_0_03 (io), C11 PT9D/M2 (io), C14 PT11B (io), C16 PT13C/PTCK0T (io), C17 PT14C/PTCK1T (io), C18 PT15B (io), C19 PT16A (io), C21 PT18A/VREF_1_03 (io), C24 PT20B (io), C25 PT21D (io), C26 PT23B (io), C27 PT24C/VREF_2_07 (io), C28 PT24D (io), C29 PT26A (io), C30 PT27D/PLL_CK2C/PPLL (io), D2 ~{RD_CFG} (in), D6 PT2D/PLL_CK1C/PPLL (io), D7 PT4C/TCK (io), D8 PT6A (io), D9 PT7B/A20/~{MPI_BDIP} (io), D10 PT8A (io), D11 PT9A/~{MPI_TEA} (io), D12 PT9B/VREF_0_02 (io), D13 PT11A/VREF_0_01 (io), D14 PT11C/~{MPI_ACK} (io), D15 PT12D (io), D17 PT14A (io), D18 PT15C/VREF_1_04 (io), D20 PT17D (io), D21 PT19A (io), D22 PT19C/VREF_1_02 (io), D23 PT20D/VREF_1_01 (io), D24 PT21A (io), D25 PT22D (io), D26 PT23C/VREF_2_08 (io), D27 PT25A (io), D29 PT26D/VREF_2_05 (io), D30 PLL_VF, D33 PR4D (io), E3 ~{RESET} (in), E4 RD_DATA/TDO (out), E6 CCLK (io), E7 ~{CFG_IRQ/MPI_IRQ} (out), E8 PT2A (io), E9 PT3C/VREF_0_06 (io), E10 PT4B (io), E11 PT5D/D1 (io), E12 PT6C/D3 (io), E14 PT9C/M3 (io), E15 PT10B/MPI_CLK (io), E16 PT11D/~{MPI_RTRY} (io), E17 PT12B (io), E18 PT13B/VREF_1_05 (io), E19 PT15D (io), E22 PT19B (io), E23 PT20A (io), E24 PT21C (io), E25 PT24A (io), E26 PT25C (io), E27 PT26B (io), E28 PT27B (io), E31 PR3C/PLL_CK3T/PLL1 (io), E32 PR3B/VREF_2_04 (io), E33 PR4C (io), E34 PR5C (io), F31 PR4B (io), F32 PR4A (io), F33 PR6C/VREF_2_02 (io), G5 ~{PRGM} (in), G30 PR3D/PLL_CK3C/PLL1 (io), G31 PR5B (io), G32 PR6D (io), G33 PR6B (io), G34 PR7B (io), H30 PR3A (io), H31 PR6A (io), H32 PR7D (io), H33 PR7C (io), H34 PR8A (io), J30 PR5D/VREF_2_03 (io), J31 PR8D/VREF_2_01 (io), J32 PR7A (io), J33 PR8C (io), J34 PR8B (io), K30 PR5A (io), K31 PR9D (io), K32 PR9A (io), K33 PR10D (io), K34 PR10C (io), L31 PR10B (io), L32 PR11D (io), L33 PR10A (io), M31 PR11A (io), M33 PR11B (io), M34 PR11C/VREF_3_07 (io), N30 PR9C/VREF_3_08 (io), N31 PR12D (io), N33 PR12C (io), P31 PR12A (io), P32 PR13D/VREF_3_06 (io), P33 PR12B (io), P34 PR13C (io), R31 PR13A (io), R34 PR13B (io), T31 PR14D (io), T32 PR14C/VREF_3_05 (io), T34 PR14A/PRCK0T (io), U31 PR14B/PRCK0C (io), V30 PR15A (io), V31 PR15B/VREF_3_04 (io), V32 PR15D (io), V33 PR15C (io), W30 PR17D/VREF_3_03 (io), W31 PR16B (io), W33 PR16D/PRCK1C (io), Y30 PR17B (io), Y34 PR16C/PRCK1T (io)
part C pins: AA2 Unused, AA3 Unused, AA31 Unused, AA34 Unused, AC4 Unused, AC34 Unused, AD5 Unused, AD33 Unused, AE4 Unused, AE30 Unused, AF30 Unused, AF32 Unused, AH32 Unused, AK19 Unused, AK20 Unused, AK21 Unused, AL9 Unused, AL14 Unused, AL16 Unused, AL20 Unused, AM26 Unused, AN7 Unused, AN8 Unused, AN9 Unused, AN14 Unused, AN15 Unused, AN25 Unused, AN26 Unused, AP4 Unused, B13 Unused, B14 Unused, B15 Unused, B29 Unused, C10 Unused, D16 Unused, D19 Unused, D28 Unused, D34 Unused, E13 Unused, E20 Unused, E21 Unused, F34 Unused, K4 Unused, L30 Unused, M5 Unused, M30 Unused, N34 Unused, P30 Unused, R5 Unused, R30 Unused, R33 Unused, T5 Unused, T30 Unused, T33 Unused, U30 Unused, U32 Unused, U33 Unused, W32 Unused, Y2 Unused, Y31 Unused, Y33 Unused
part D pins: A1 VSS (power), A2 VSS (power), A3 VDDIO0 (power), A11 VDDIO1 (power), A17 VDDIO1 (power), A18 VSS (power), A19 VDDIO1 (power), A24 VDDIO1 (power), A32 VDDIO2 (power), A33 VSS (power), A34 VSS (power), AA13 VSS (power), AA14 VSS (power), AA15 VSS (power), AA16 VDD15 (power), AA17 VDD15 (power), AA18 VDD15 (power), AA19 VDD15 (power), AA20 VSS (power), AA21 VSS (power), AA22 VSS (power), AB3 VSS (power), AB13 VSS (power), AB14 VSS (power), AB15 VSS (power), AB16 VDD15 (power), AB17 VDD15 (power), AB18 VDD15 (power), AB19 VDD15 (power), AB20 VSS (power), AB21 VSS (power), AB22 VSS (power), AB32 VSS (power), AC3 VDDIO7 (power), AC32 VDDIO3 (power), AD1 VDDIO7 (power), AD34 VDDIO3 (power), AK5 VDDIO6 (power), AK6 VDD33 (power), AK30 VDDIO4 (power), AK31 VDD33 (power), AL2 VDD33 (power), AL3 VDDIO6 (power), AL4 VSS (power), AL31 VSS (power), AL32 VDDIO4 (power), AM1 VDDIO6 (power), AM2 VDDIO6 (power), AM3 VSS (power), AM4 VDDIO6 (power), AM12 VDDIO5 (power), AM13 VSS (power), AM15 VDDIO5 (power), AM20 VDDIO5 (power), AM22 VSS (power), AM23 VDDIO5 (power), AM31 VDDIO4 (power), AM32 VSS (power), AM33 VDDIO4 (power), AM34 VDDIO4 (power), AN1 VSS (power), AN2 VSS (power), AN3 VDDIO6 (power), AN31 VDD33 (power), AN32 VDDIO4 (power), AN33 VSS (power), AN34 VSS (power), AP1 VSS (power), AP2 VSS (power), AP3 VDDIO6 (power), AP11 VDDIO5 (power), AP17 VDDIO5 (power), AP18 VSS (power), AP19 VDDIO5 (power), AP24 VDDIO5 (power), AP32 VDDIO4 (power), AP33 VSS (power), AP34 VSS (power), B1 VSS (power), B2 VSS (power), B3 VDDIO0 (power), B32 VDDIO2 (power), B33 VSS (power), B34 VSS (power), C1 VDDIO0 (power), C2 VDDIO0 (power), C3 VSS (power), C4 VDDIO0 (power), C12 VDDIO1 (power), C13 VSS (power), C15 VDDIO1 (power), C20 VDDIO1 (power), C22 VSS (power), C23 VDDIO1 (power), C31 VDDIO2 (power), C32 VSS (power), C33 VDDIO2 (power), C34 VDDIO2 (power), D3 VDDIO0 (power), D4 VSS (power), D5 VDD33 (power), D31 VSS (power), D32 VDDIO2 (power), E5 VDDIO0 (power), E29 VDD33 (power), E30 VDDIO2 (power), F5 VDD33 (power), F30 VDD33 (power), L1 VDDIO7 (power), L34 VDDIO3 (power), M3 VDDIO7 (power), M32 VDDIO3 (power), N3 VSS (power), N13 VSS (power), N14 VSS (power), N15 VSS (power), N16 VDD15 (power), N17 VDD15 (power), N18 VDD15 (power), N19 VDD15 (power), N20 VSS (power), N21 VSS (power), N22 VSS (power), N32 VSS (power), P13 VSS (power), P14 VSS (power), P15 VSS (power), P16 VDD15 (power), P17 VDD15 (power), P18 VDD15 (power), P19 VDD15 (power), P20 VSS (power), P21 VSS (power), P22 VSS (power), R3 VDDIO7 (power), R13 VSS (power), R14 VSS (power), R15 VSS (power), R16 VDD15 (power), R17 VDD15 (power), R18 VDD15 (power), R19 VDD15 (power), R20 VSS (power), R21 VSS (power), R22 VSS (power), R32 VDDIO3 (power), T13 VDD15 (power), T14 VDD15 (power), T15 VDD15 (power), T16 VSS (power), T17 VSS (power), T18 VSS (power), T19 VSS (power), T20 VDD15 (power), T21 VDD15 (power), T22 VDD15 (power), U1 VDDIO7 (power), U13 VDD15 (power), U14 VDD15 (power), U15 VDD15 (power), U16 VSS (power), U17 VSS (power), U18 VSS (power), U19 VSS (power), U20 VDD15 (power), U21 VDD15 (power), U22 VDD15 (power), U34 VDDIO3 (power), V1 VSS (power), V13 VDD15 (power), V14 VDD15 (power), V15 VDD15 (power), V16 VSS (power), V17 VSS (power), V18 VSS (power), V19 VSS (power), V20 VDD15 (power), V21 VDD15 (power), V22 VDD15 (power), V34 VSS (power), W1 VDDIO7 (power), W13 VDD15 (power), W14 VDD15 (power), W15 VDD15 (power), W16 VSS (power), W17 VSS (power), W18 VSS (power), W19 VSS (power), W20 VDD15 (power), W21 VDD15 (power), W22 VDD15 (power), W34 VDDIO3 (power), Y3 VDDIO7 (power), Y13 VSS (power), Y14 VSS (power), Y15 VSS (power), Y16 VDD15 (power), Y17 VDD15 (power), Y18 VDD15 (power), Y19 VDD15 (power), Y20 VSS (power), Y21 VSS (power), Y22 VSS (power), Y32 VDDIO3 (power)

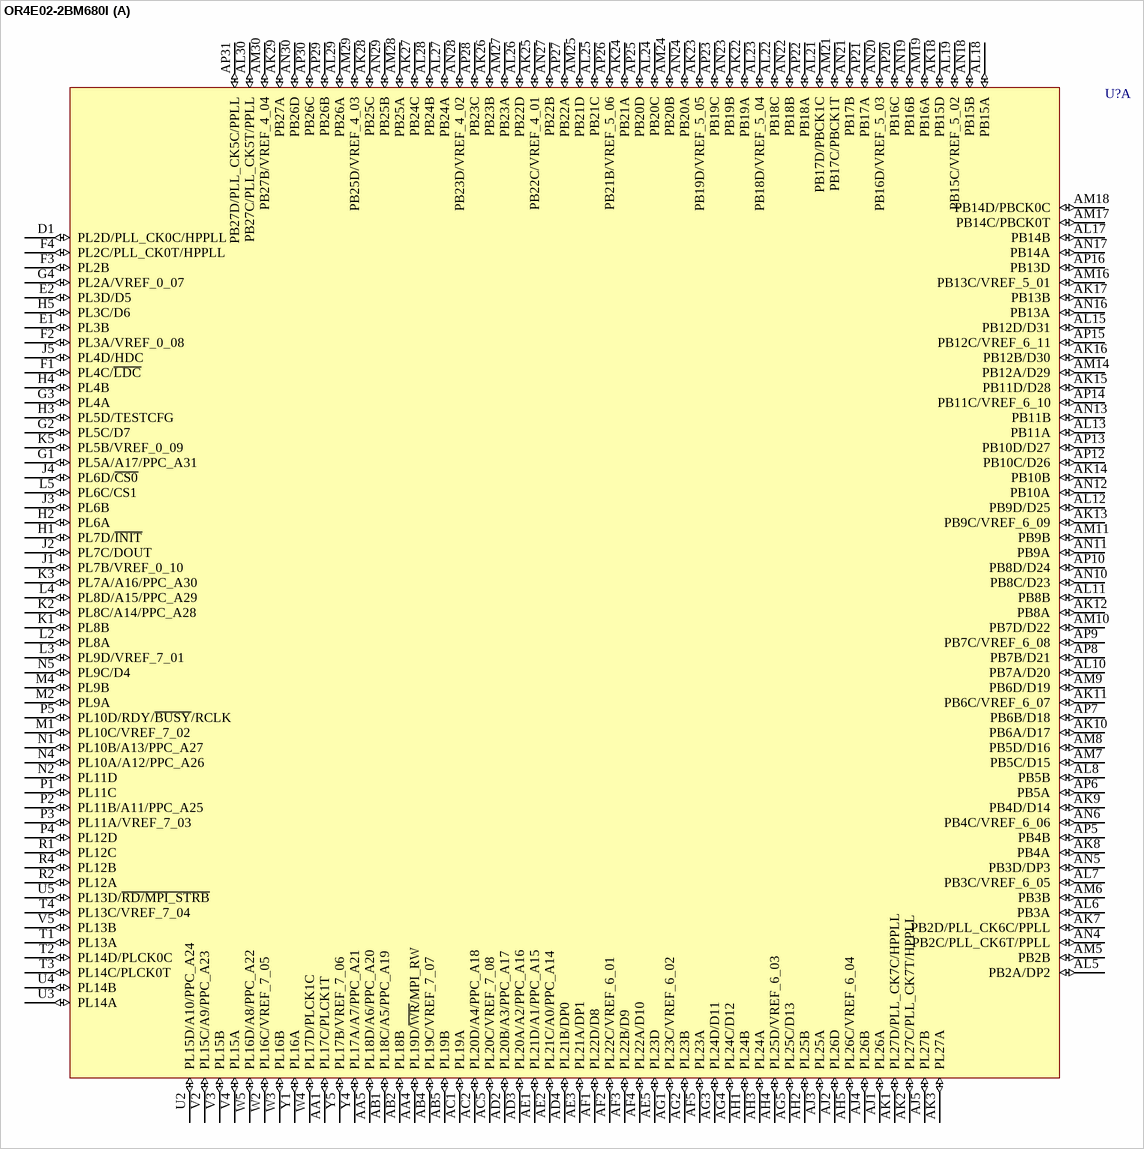
[diagram p33: symbol OR4E02-2BM680I]

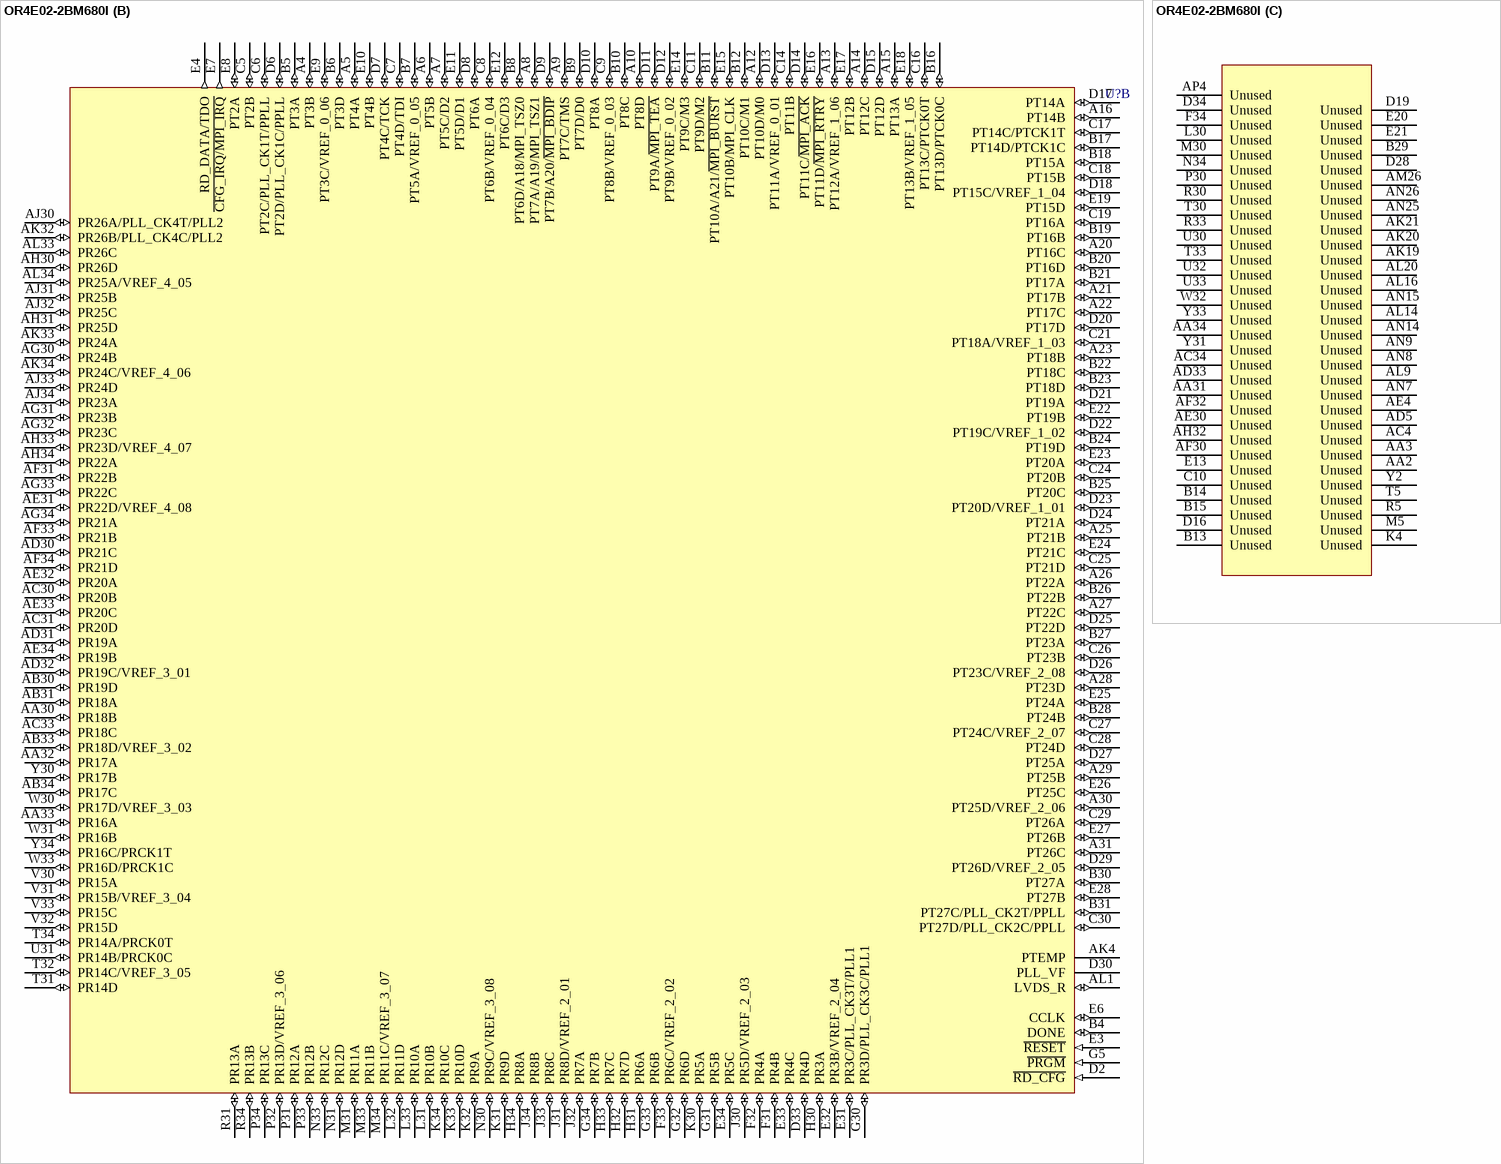
[diagram p34: symbol OR4E02-2BM680I]

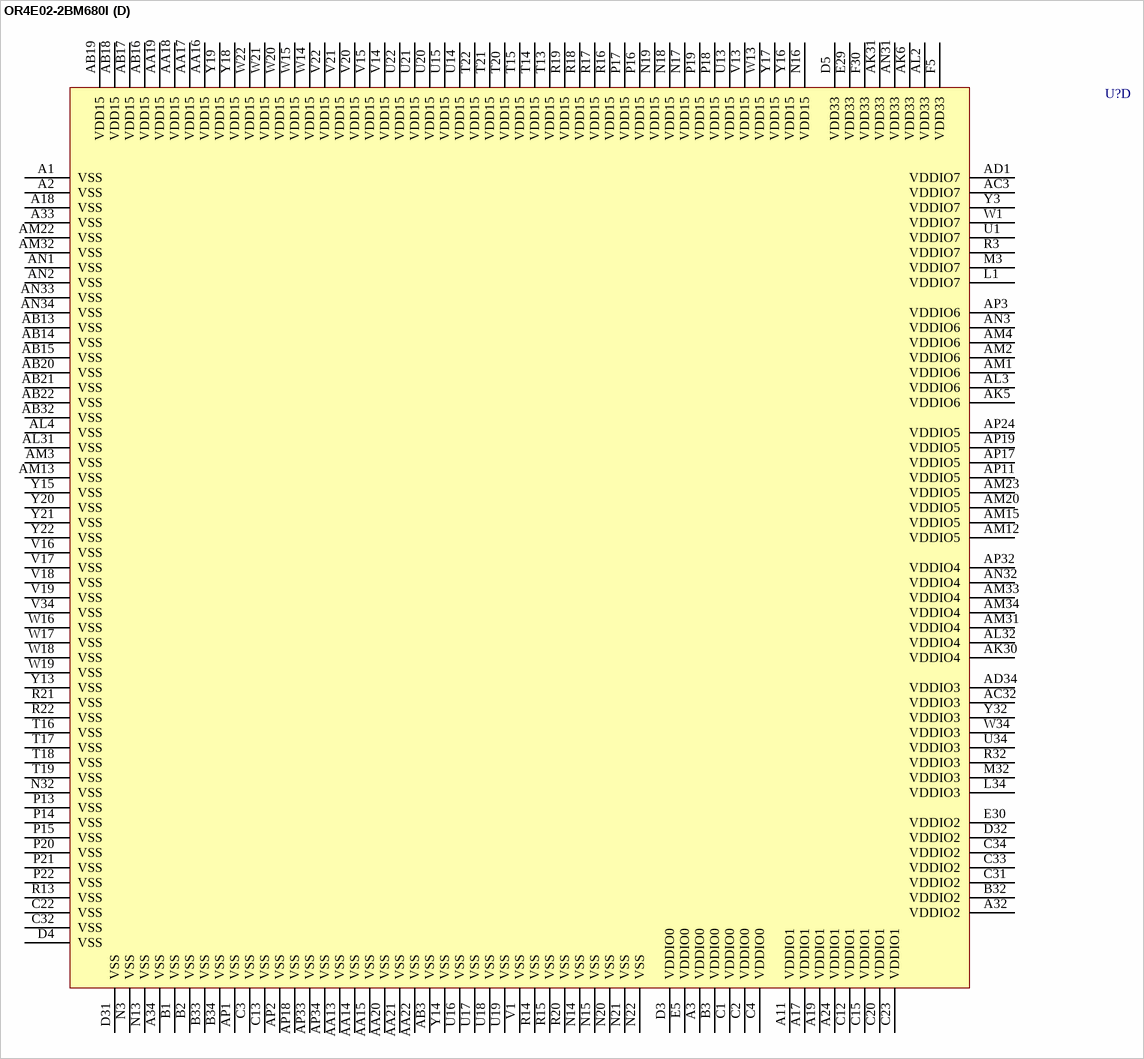
[diagram p35: symbol OR4E02-2BM680I]

## OR4E02-2BM680I
designator U?
ORCA Series 4 FPGA: 1.5 V, Industrial Grade, 405 I/Os.; Published: 21-May-2003; LatestRevisionDate: 13-Apr-2006; LatestRevisionNote: IPC-7351 Footprint Added.; DatasheetVersion: Aug-2003; PackageVersion: pkg_32, Aug-2005; PackageReference: fpBGA680; Publisher: Altium Limited; PackageDescription: 680-Ball Fine Pitch Ball Grid Array (fpBGA680); ComponentLink1Description: Manufacturer Link; ComponentLink1URL: http://www.latticesemi.com/products/fpga/orca/orca4/index.cfm; ComponentLink2Description: Datasheet; ComponentLink2URL: http://www.latticesemi.com/account/_download.cfm?AMID=3970; ComponentLink3Description: Lattice Login; ComponentLink3URL: http://www.latticesemi.com/account/login.cfm
footprint fpBGA680 (BGA, 680-Leads, Body 35x35mm, Pitch 1mm)
3D model OR4E02-fpBGA680 (680-Ball Fine Pitch Ball Grid Array (fpBGA680))
part A pins: AA1 PL17C/PLCK1T (io), AA4 PL19D/~{WR}/MPI_RW (io), AA5 PL18D/A6/PPC_A20 (io), AB1 PL18C/A5/PPC_A19 (io), AB2 PL18B (io), AB4 PL19C/VREF_7_07 (io), AB5 PL19B (io), AC1 PL19A (io), AC2 PL20D/A4/PPC_A18 (io), AC5 PL20C/VREF_7_08 (io), AD2 PL20B/A3/PPC_A17 (io), AD3 PL20A/A2/PPC_A16 (io), AD4 PL21B/DP0 (io), AE1 PL21D/A1/PPC_A15 (io), AE2 PL21C/A0/PPC_A14 (io), AE3 PL21A/DP1 (io), AE5 PL23D (io), AF1 PL22D/D8 (io), AF2 PL22C/VREF_6_01 (io), AF3 PL22B/D9 (io), AF4 PL22A/D10 (io), AF5 PL23A (io), AG1 PL23C/VREF_6_02 (io), AG2 PL23B (io), AG3 PL24D/D11 (io), AG4 PL24C/D12 (io), AG5 PL25C/D13 (io), AH1 PL24B (io), AH2 PL25B (io), AH3 PL24A (io), AH4 PL25D/VREF_6_03 (io), AH5 PL26C/VREF_6_04 (io), AJ1 PL26A (io), AJ2 PL26D (io), AJ3 PL25A (io), AJ4 PL26B (io), AJ5 PL27B (io), AK1 PL27D/PLL_CK7C/HPPLL (io), AK2 PL27C/PLL_CK7T/HPPLL (io), AK3 PL27A (io), AK7 PB2D/PLL_CK6C/PPLL (io), AK8 PB4A (io), AK9 PB4D/D14 (io), AK10 PB6A/D17 (io), AK11 PB6C/VREF_6_07 (io), AK12 PB8A (io), AK13 PB9C/VREF_6_09 (io), AK14 PB10B (io), AK15 PB11D/D28 (io), AK16 PB12B/D30 (io), AK17 PB13B (io), AK18 PB15D (io), AK22 PB19A (io), AK23 PB19D/VREF_5_05 (io), AK24 PB21A (io), AK25 PB22C/VREF_4_01 (io), AK26 PB23B (io), AK27 PB24C (io), AK28 PB25C (io), AK29 PB27A (io), AL5 PB2A/DP2 (io), AL6 PB3A (io), AL7 PB3C/VREF_6_05 (io), AL8 PB5B (io), AL10 PB7A/D20 (io), AL11 PB8B (io), AL12 PB9D/D25 (io), AL13 PB11A (io), AL15 PB12D/D31 (io), AL17 PB14B (io), AL18 PB15A (io), AL19 PB15C/VREF_5_02 (io), AL21 PB17D/PBCK1C (io), AL22 PB18C (io), AL23 PB18D/VREF_5_04 (io), AL24 PB20C (io), AL25 PB21C (io), AL26 PB22D (io), AL27 PB24A (io), AL28 PB24B (io), AL29 PB26A (io), AL30 PB27C/PLL_CK5T/PPLL (io), AM5 PB2B (io), AM6 PB3B (io), AM7 PB5C/D15 (io), AM8 PB5D/D16 (io), AM9 PB6D/D19 (io), AM10 PB7D/D22 (io), AM11 PB9B (io), AM14 PB12A/D29 (io), AM16 PB13C/VREF_5_01 (io), AM17 PB14C/PBCK0T (io), AM18 PB14D/PBCK0C (io), AM19 PB16A (io), AM21 PB17C/PBCK1T (io), AM24 PB20B (io), AM25 PB21D (io), AM27 PB23A (io), AM28 PB25A (io), AM29 PB25D/VREF_4_03 (io), AM30 PB27B/VREF_4_04 (io), AN4 PB2C/PLL_CK6T/PPLL (io), AN5 PB3D/DP3 (io), AN6 PB4C/VREF_6_06 (io), AN10 PB8C/D23 (io), AN11 PB9A (io), AN12 PB10A (io), AN13 PB11B (io), AN16 PB13A (io), AN17 PB14A (io), AN18 PB15B (io), AN19 PB16B (io), AN20 PB16D/VREF_5_03 (io), AN21 PB17B (io), AN22 PB18B (io), AN23 PB19B (io), AN24 PB20A (io), AN27 PB22B (io), AN28 PB23D/VREF_4_02 (io), AN29 PB25B (io), AN30 PB26D (io), AP5 PB4B (io), AP6 PB5A (io), AP7 PB6B/D18 (io), AP8 PB7B/D21 (io), AP9 PB7C/VREF_6_08 (io), AP10 PB8D/D24 (io), AP12 PB10C/D26 (io), AP13 PB10D/D27 (io), AP14 PB11C/VREF_6_10 (io), AP15 PB12C/VREF_6_11 (io), AP16 PB13D (io), AP20 PB16C (io), AP21 PB17A (io), AP22 PB18A (io), AP23 PB19C (io), AP25 PB20D (io), AP26 PB21B/VREF_5_06 (io), AP27 PB22A (io), AP28 PB23C (io), AP29 PB26B (io), AP30 PB26C (io), AP31 PB27D/PLL_CK5C/PPLL (io), D1 PL2D/PLL_CK0C/HPPLL (io), E1 PL3B (io), E2 PL3D/D5 (io), F1 PL4C/~{LDC} (io), F2 PL3A/VREF_0_08 (io), F3 PL2B (io), F4 PL2C/PLL_CK0T/HPPLL (io), G1 PL5A/A17/PPC_A31 (io), G2 PL5C/D7 (io), G3 PL4A (io), G4 PL2A/VREF_0_07 (io), H1 PL7D/~{INIT} (io), H2 PL6A (io), H3 PL5D/TESTCFG (io), H4 PL4B (io), H5 PL3C/D6 (io), J1 PL7B/VREF_0_10 (io), J2 PL7C/DOUT (io), J3 PL6B (io), J4 PL6D/~{CS0} (io), J5 PL4D/HDC (io), K1 PL8B (io), K2 PL8C/A14/PPC_A28 (io), K3 PL7A/A16/PPC_A30 (io), K5 PL5B/VREF_0_09 (io), L2 PL8A (io), L3 PL9D/VREF_7_01 (io), L4 PL8D/A15/PPC_A29 (io), L5 PL6C/CS1 (io), M1 PL10C/VREF_7_02 (io), M2 PL9A (io), M4 PL9B (io), N1 PL10B/A13/PPC_A27 (io), N2 PL11D (io), N4 PL10A/A12/PPC_A26 (io), N5 PL9C/D4 (io), P1 PL11C (io), P2 PL11B/A11/PPC_A25 (io), P3 PL11A/VREF_7_03 (io), P4 PL12D (io), P5 PL10D/RDY/~{BUSY}/RCLK (io), R1 PL12C (io), R2 PL12A (io), R4 PL12B (io), T1 PL13A (io), T2 PL14D/PLCK0C (io), T3 PL14C/PLCK0T (io), T4 PL13C/VREF_7_04 (io), U2 PL15D/A10/PPC_A24 (io), U3 PL14A (io), U4 PL14B (io), U5 PL13D/~{RD/MPI_STRB} (io), V2 PL15C/A9/PPC_A23 (io), V3 PL15B (io), V4 PL15A (io), V5 PL13B (io), W2 PL16C/VREF_7_05 (io), W3 PL16B (io), W4 PL17D/PLCK1C (io), W5 PL16D/A8/PPC_A22 (io), Y1 PL16A (io), Y4 PL17A/A7/PPC_A21 (io), Y5 PL17B/VREF_7_06 (io)
part B pins: A4 PT3B (io), A5 PT4A (io), A6 PT5B (io), A7 PT5C/D2 (io), A8 PT7A/A19/MPI_TSZ1 (io), A9 PT7C/TMS (io), A10 PT8D (io), A12 PT10D/M0 (io), A13 PT12A/VREF_1_06 (io), A14 PT12C (io), A15 PT13A (io), A16 PT14B (io), A20 PT16C (io), A21 PT17B (io), A22 PT17C (io), A23 PT18B (io), A25 PT21B (io), A26 PT22A (io), A27 PT22C (io), A28 PT23D (io), A29 PT25B (io), A30 PT25D/VREF_2_06 (io), A31 PT26C (io), AA30 PR18B (io), AA32 PR17A (io), AA33 PR16A (io), AB30 PR19D (io), AB31 PR18A (io), AB33 PR18D/VREF_3_02 (io), AB34 PR17C (io), AC30 PR20B (io), AC31 PR20D (io), AC33 PR18C (io), AD30 PR21C (io), AD31 PR19A (io), AD32 PR19C/VREF_3_01 (io), AE31 PR22D/VREF_4_08 (io), AE32 PR20A (io), AE33 PR20C (io), AE34 PR19B (io), AF31 PR22B (io), AF33 PR21B (io), AF34 PR21D (io), AG30 PR24B (io), AG31 PR23B (io), AG32 PR23C (io), AG33 PR22C (io), AG34 PR21A (io), AH30 PR26D (io), AH31 PR25D (io), AH33 PR23D/VREF_4_07 (io), AH34 PR22A (io), AJ30 PR26A/PLL_CK4T/PLL2 (io), AJ31 PR25B (io), AJ32 PR25C (io), AJ33 PR24D (io), AJ34 PR23A (io), AK4 PTEMP, AK32 PR26B/PLL_CK4C/PLL2 (io), AK33 PR24A (io), AK34 PR24C/VREF_4_06 (io), AL1 LVDS_R (io), AL33 PR26C (io), AL34 PR25A/VREF_4_05 (io), B4 DONE (io), B5 PT3A (io), B6 PT3D (io), B7 PT5A/VREF_0_05 (io), B8 PT6D/A18/MPI_TSZ0 (io), B9 PT7D/D0 (io), B10 PT8C (io), B11 PT10A/A21/~{MPI_BURST} (io), B12 PT10C/M1 (io), B16 PT13D/PTCK0C (io), B17 PT14D/PTCK1C (io), B18 PT15A (io), B19 PT16B (io), B20 PT16D (io), B21 PT17A (io), B22 PT18C (io), B23 PT18D (io), B24 PT19D (io), B25 PT20C (io), B26 PT22B (io), B27 PT23A (io), B28 PT24B (io), B30 PT27A (io), B31 PT27C/PLL_CK2T/PPLL (io), C5 PT2B (io), C6 PT2C/PLL_CK1T/PPLL (io), C7 PT4D/TDI (io), C8 PT6B/VREF_0_04 (io), C9 PT8B/VREF_0_03 (io), C11 PT9D/M2 (io), C14 PT11B (io), C16 PT13C/PTCK0T (io), C17 PT14C/PTCK1T (io), C18 PT15B (io), C19 PT16A (io), C21 PT18A/VREF_1_03 (io), C24 PT20B (io), C25 PT21D (io), C26 PT23B (io), C27 PT24C/VREF_2_07 (io), C28 PT24D (io), C29 PT26A (io), C30 PT27D/PLL_CK2C/PPLL (io), D2 ~{RD_CFG} (in), D6 PT2D/PLL_CK1C/PPLL (io), D7 PT4C/TCK (io), D8 PT6A (io), D9 PT7B/A20/~{MPI_BDIP} (io), D10 PT8A (io), D11 PT9A/~{MPI_TEA} (io), D12 PT9B/VREF_0_02 (io), D13 PT11A/VREF_0_01 (io), D14 PT11C/~{MPI_ACK} (io), D15 PT12D (io), D17 PT14A (io), D18 PT15C/VREF_1_04 (io), D20 PT17D (io), D21 PT19A (io), D22 PT19C/VREF_1_02 (io), D23 PT20D/VREF_1_01 (io), D24 PT21A (io), D25 PT22D (io), D26 PT23C/VREF_2_08 (io), D27 PT25A (io), D29 PT26D/VREF_2_05 (io), D30 PLL_VF, D33 PR4D (io), E3 ~{RESET} (in), E4 RD_DATA/TDO (out), E6 CCLK (io), E7 ~{CFG_IRQ/MPI_IRQ} (out), E8 PT2A (io), E9 PT3C/VREF_0_06 (io), E10 PT4B (io), E11 PT5D/D1 (io), E12 PT6C/D3 (io), E14 PT9C/M3 (io), E15 PT10B/MPI_CLK (io), E16 PT11D/~{MPI_RTRY} (io), E17 PT12B (io), E18 PT13B/VREF_1_05 (io), E19 PT15D (io), E22 PT19B (io), E23 PT20A (io), E24 PT21C (io), E25 PT24A (io), E26 PT25C (io), E27 PT26B (io), E28 PT27B (io), E31 PR3C/PLL_CK3T/PLL1 (io), E32 PR3B/VREF_2_04 (io), E33 PR4C (io), E34 PR5C (io), F31 PR4B (io), F32 PR4A (io), F33 PR6C/VREF_2_02 (io), G5 ~{PRGM} (in), G30 PR3D/PLL_CK3C/PLL1 (io), G31 PR5B (io), G32 PR6D (io), G33 PR6B (io), G34 PR7B (io), H30 PR3A (io), H31 PR6A (io), H32 PR7D (io), H33 PR7C (io), H34 PR8A (io), J30 PR5D/VREF_2_03 (io), J31 PR8D/VREF_2_01 (io), J32 PR7A (io), J33 PR8C (io), J34 PR8B (io), K30 PR5A (io), K31 PR9D (io), K32 PR9A (io), K33 PR10D (io), K34 PR10C (io), L31 PR10B (io), L32 PR11D (io), L33 PR10A (io), M31 PR11A (io), M33 PR11B (io), M34 PR11C/VREF_3_07 (io), N30 PR9C/VREF_3_08 (io), N31 PR12D (io), N33 PR12C (io), P31 PR12A (io), P32 PR13D/VREF_3_06 (io), P33 PR12B (io), P34 PR13C (io), R31 PR13A (io), R34 PR13B (io), T31 PR14D (io), T32 PR14C/VREF_3_05 (io), T34 PR14A/PRCK0T (io), U31 PR14B/PRCK0C (io), V30 PR15A (io), V31 PR15B/VREF_3_04 (io), V32 PR15D (io), V33 PR15C (io), W30 PR17D/VREF_3_03 (io), W31 PR16B (io), W33 PR16D/PRCK1C (io), Y30 PR17B (io), Y34 PR16C/PRCK1T (io)
part C pins: AA2 Unused, AA3 Unused, AA31 Unused, AA34 Unused, AC4 Unused, AC34 Unused, AD5 Unused, AD33 Unused, AE4 Unused, AE30 Unused, AF30 Unused, AF32 Unused, AH32 Unused, AK19 Unused, AK20 Unused, AK21 Unused, AL9 Unused, AL14 Unused, AL16 Unused, AL20 Unused, AM26 Unused, AN7 Unused, AN8 Unused, AN9 Unused, AN14 Unused, AN15 Unused, AN25 Unused, AN26 Unused, AP4 Unused, B13 Unused, B14 Unused, B15 Unused, B29 Unused, C10 Unused, D16 Unused, D19 Unused, D28 Unused, D34 Unused, E13 Unused, E20 Unused, E21 Unused, F34 Unused, K4 Unused, L30 Unused, M5 Unused, M30 Unused, N34 Unused, P30 Unused, R5 Unused, R30 Unused, R33 Unused, T5 Unused, T30 Unused, T33 Unused, U30 Unused, U32 Unused, U33 Unused, W32 Unused, Y2 Unused, Y31 Unused, Y33 Unused
part D pins: A1 VSS (power), A2 VSS (power), A3 VDDIO0 (power), A11 VDDIO1 (power), A17 VDDIO1 (power), A18 VSS (power), A19 VDDIO1 (power), A24 VDDIO1 (power), A32 VDDIO2 (power), A33 VSS (power), A34 VSS (power), AA13 VSS (power), AA14 VSS (power), AA15 VSS (power), AA16 VDD15 (power), AA17 VDD15 (power), AA18 VDD15 (power), AA19 VDD15 (power), AA20 VSS (power), AA21 VSS (power), AA22 VSS (power), AB3 VSS (power), AB13 VSS (power), AB14 VSS (power), AB15 VSS (power), AB16 VDD15 (power), AB17 VDD15 (power), AB18 VDD15 (power), AB19 VDD15 (power), AB20 VSS (power), AB21 VSS (power), AB22 VSS (power), AB32 VSS (power), AC3 VDDIO7 (power), AC32 VDDIO3 (power), AD1 VDDIO7 (power), AD34 VDDIO3 (power), AK5 VDDIO6 (power), AK6 VDD33 (power), AK30 VDDIO4 (power), AK31 VDD33 (power), AL2 VDD33 (power), AL3 VDDIO6 (power), AL4 VSS (power), AL31 VSS (power), AL32 VDDIO4 (power), AM1 VDDIO6 (power), AM2 VDDIO6 (power), AM3 VSS (power), AM4 VDDIO6 (power), AM12 VDDIO5 (power), AM13 VSS (power), AM15 VDDIO5 (power), AM20 VDDIO5 (power), AM22 VSS (power), AM23 VDDIO5 (power), AM31 VDDIO4 (power), AM32 VSS (power), AM33 VDDIO4 (power), AM34 VDDIO4 (power), AN1 VSS (power), AN2 VSS (power), AN3 VDDIO6 (power), AN31 VDD33 (power), AN32 VDDIO4 (power), AN33 VSS (power), AN34 VSS (power), AP1 VSS (power), AP2 VSS (power), AP3 VDDIO6 (power), AP11 VDDIO5 (power), AP17 VDDIO5 (power), AP18 VSS (power), AP19 VDDIO5 (power), AP24 VDDIO5 (power), AP32 VDDIO4 (power), AP33 VSS (power), AP34 VSS (power), B1 VSS (power), B2 VSS (power), B3 VDDIO0 (power), B32 VDDIO2 (power), B33 VSS (power), B34 VSS (power), C1 VDDIO0 (power), C2 VDDIO0 (power), C3 VSS (power), C4 VDDIO0 (power), C12 VDDIO1 (power), C13 VSS (power), C15 VDDIO1 (power), C20 VDDIO1 (power), C22 VSS (power), C23 VDDIO1 (power), C31 VDDIO2 (power), C32 VSS (power), C33 VDDIO2 (power), C34 VDDIO2 (power), D3 VDDIO0 (power), D4 VSS (power), D5 VDD33 (power), D31 VSS (power), D32 VDDIO2 (power), E5 VDDIO0 (power), E29 VDD33 (power), E30 VDDIO2 (power), F5 VDD33 (power), F30 VDD33 (power), L1 VDDIO7 (power), L34 VDDIO3 (power), M3 VDDIO7 (power), M32 VDDIO3 (power), N3 VSS (power), N13 VSS (power), N14 VSS (power), N15 VSS (power), N16 VDD15 (power), N17 VDD15 (power), N18 VDD15 (power), N19 VDD15 (power), N20 VSS (power), N21 VSS (power), N22 VSS (power), N32 VSS (power), P13 VSS (power), P14 VSS (power), P15 VSS (power), P16 VDD15 (power), P17 VDD15 (power), P18 VDD15 (power), P19 VDD15 (power), P20 VSS (power), P21 VSS (power), P22 VSS (power), R3 VDDIO7 (power), R13 VSS (power), R14 VSS (power), R15 VSS (power), R16 VDD15 (power), R17 VDD15 (power), R18 VDD15 (power), R19 VDD15 (power), R20 VSS (power), R21 VSS (power), R22 VSS (power), R32 VDDIO3 (power), T13 VDD15 (power), T14 VDD15 (power), T15 VDD15 (power), T16 VSS (power), T17 VSS (power), T18 VSS (power), T19 VSS (power), T20 VDD15 (power), T21 VDD15 (power), T22 VDD15 (power), U1 VDDIO7 (power), U13 VDD15 (power), U14 VDD15 (power), U15 VDD15 (power), U16 VSS (power), U17 VSS (power), U18 VSS (power), U19 VSS (power), U20 VDD15 (power), U21 VDD15 (power), U22 VDD15 (power), U34 VDDIO3 (power), V1 VSS (power), V13 VDD15 (power), V14 VDD15 (power), V15 VDD15 (power), V16 VSS (power), V17 VSS (power), V18 VSS (power), V19 VSS (power), V20 VDD15 (power), V21 VDD15 (power), V22 VDD15 (power), V34 VSS (power), W1 VDDIO7 (power), W13 VDD15 (power), W14 VDD15 (power), W15 VDD15 (power), W16 VSS (power), W17 VSS (power), W18 VSS (power), W19 VSS (power), W20 VDD15 (power), W21 VDD15 (power), W22 VDD15 (power), W34 VDDIO3 (power), Y3 VDDIO7 (power), Y13 VSS (power), Y14 VSS (power), Y15 VSS (power), Y16 VDD15 (power), Y17 VDD15 (power), Y18 VDD15 (power), Y19 VDD15 (power), Y20 VSS (power), Y21 VSS (power), Y22 VSS (power), Y32 VDDIO3 (power)

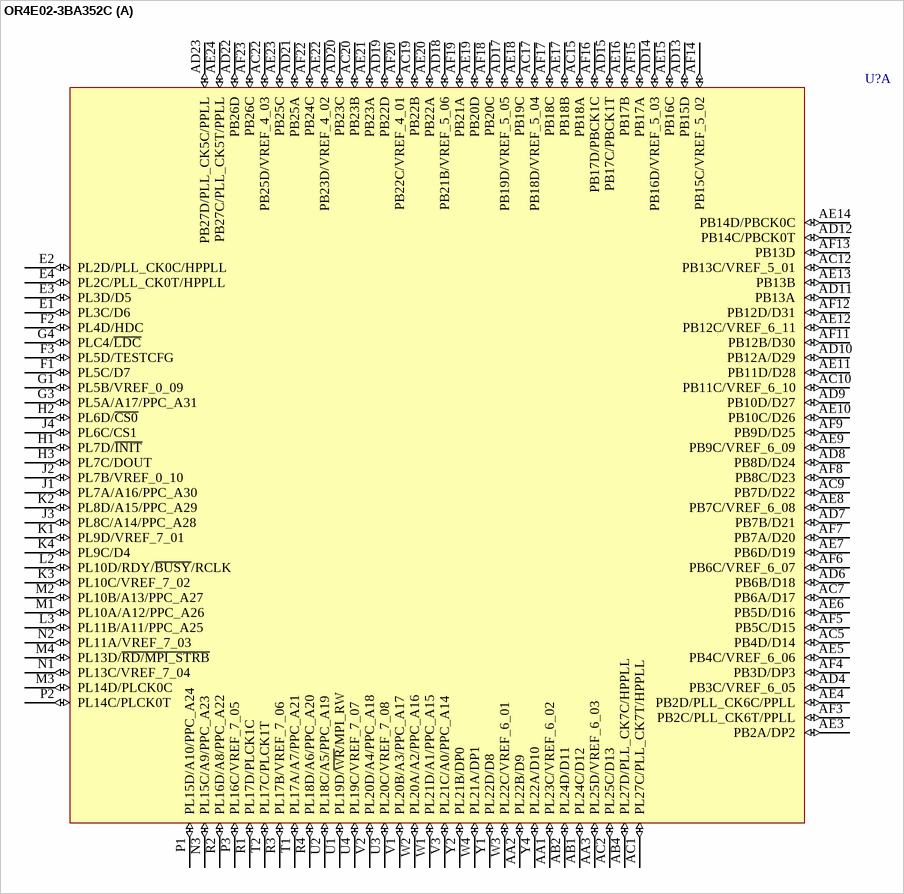
[diagram p36: symbol OR4E02-3BA352C]

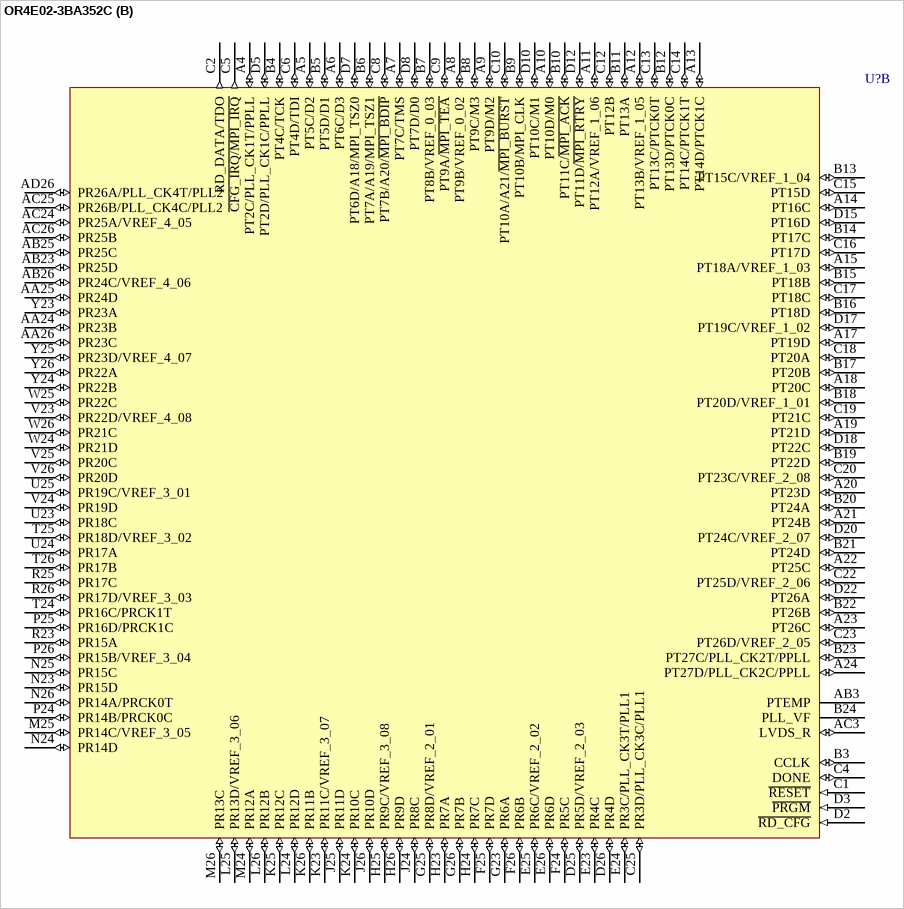
[diagram p37: symbol OR4E02-3BA352C]

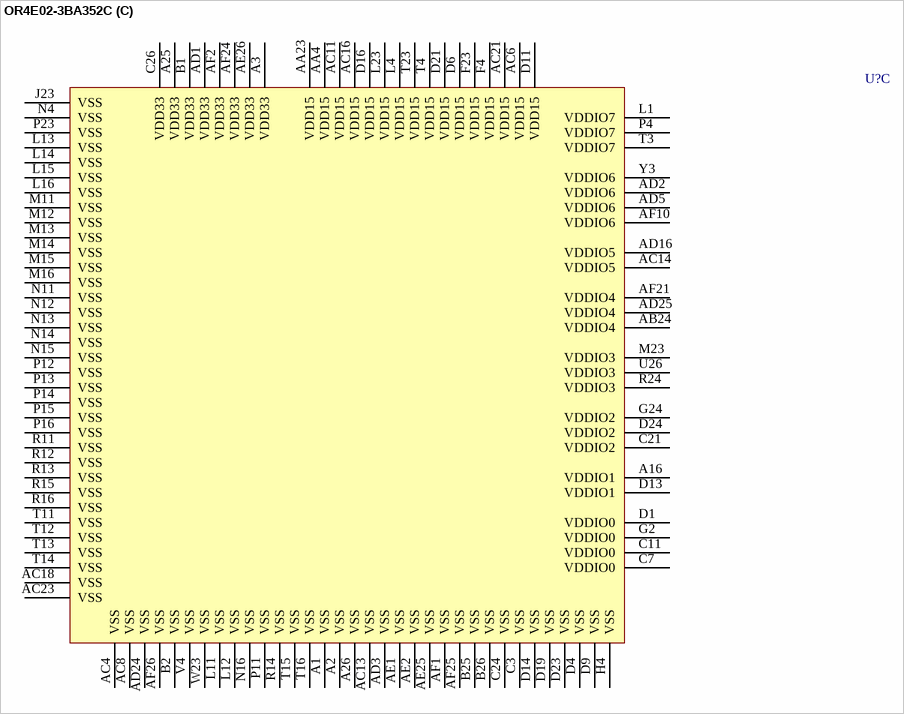
[diagram p38: symbol OR4E02-3BA352C]